# Altium integrated library Lattice Semiconductor ispMACH 4000ZE.IntLib: 56 symbols (part 1 of 3)
Pins are listed as number, name and electrical type; pins without a type are passive.

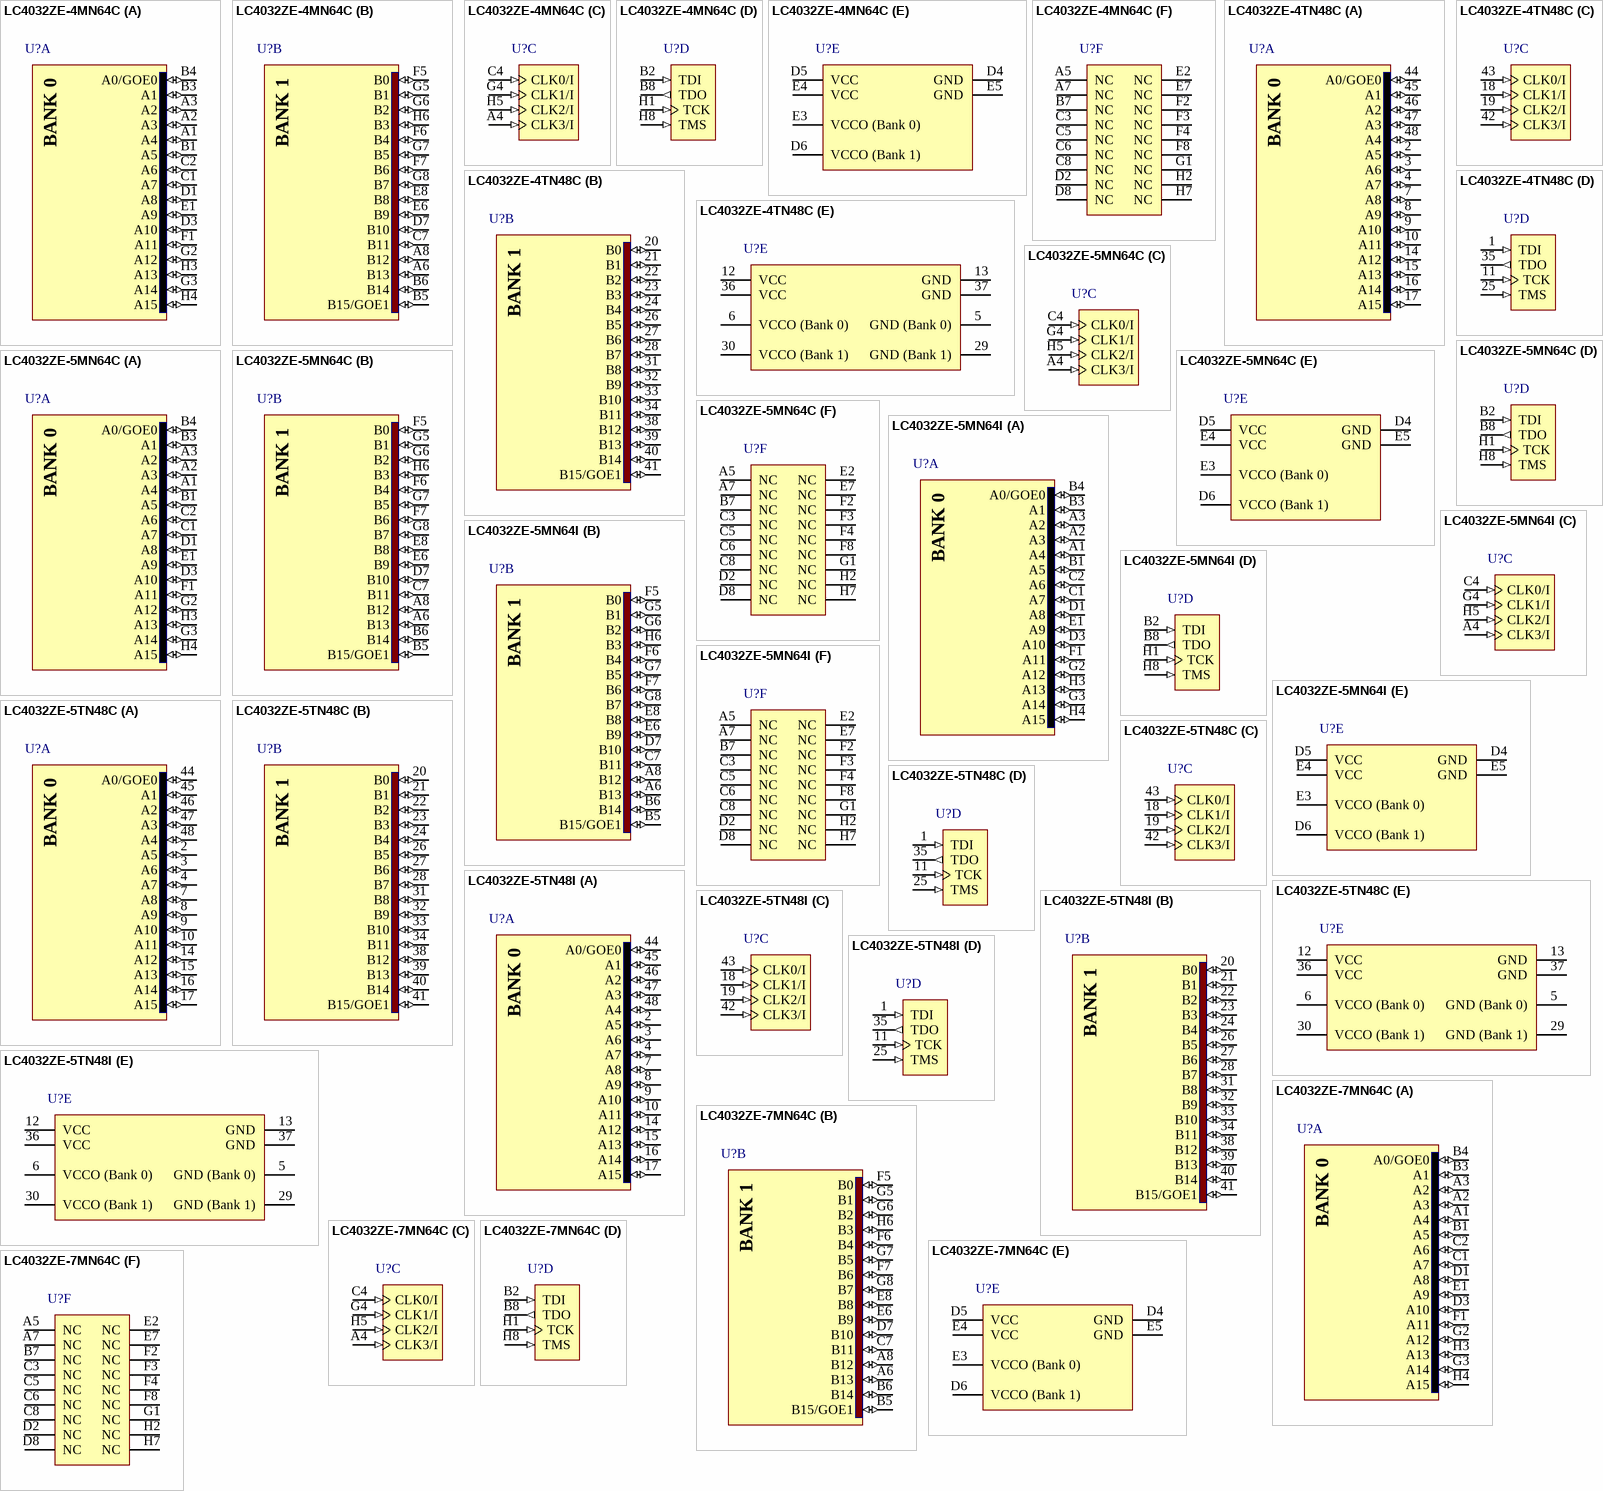
[diagram p0: symbols LC4032ZE-4MN64C to LC4032ZE-7MN64C]

## LC4032ZE-4MN64C
designator U?
ispMACH 4000ZE Ultra Low Power PLD, 1.8V, 32 User I/Os, 64-Pin csBGA, 4.4ns, Commercial Grade, Pb-Free; DatasheetVersion: ver01.4, May-2009; PackageVersion: ver02.6, Nov-2010; PackageReference: csBGA64; PackageDescription: 64-Ball Chip Scale Ball Grid Array (csBGA64); ComponentLink1Description: Manufacturer URL; ComponentLink1URL: http://www.latticesemi.com/; ComponentLink2Description: Datasheet; ComponentLink2URL: http://www.latticesemi.com/documents/DS1022.pdf; ComponentLink3Description: Package Specification; ComponentLink3URL: http://www.latticesemi.com/lit/docs/package/pkg.pdf
footprint csBGA64 (BGA, 64-Leads, Body 5x5mm, Pitch 0.5mm)
part A pins: A1 A4 (io), A2 A3 (io), A3 A2 (io), B1 A5 (io), B3 A1 (io), B4 A0/GOE0 (io), C1 A7 (io), C2 A6 (io), D1 A8 (io), D3 A10 (io), E1 A9 (io), F1 A11 (io), G2 A12 (io), G3 A14 (io), H3 A13 (io), H4 A15 (io)
part B pins: A6 B13 (io), A8 B12 (io), B5 B15/GOE1 (io), B6 B14 (io), C7 B11 (io), D7 B10 (io), E6 B9 (io), E8 B8 (io), F5 B0 (io), F6 B4 (io), F7 B6 (io), G5 B1 (io), G6 B2 (io), G7 B5 (io), G8 B7 (io), H6 B3 (io)
part C pins: A4 CLK3/I (in), C4 CLK0/I (in), G4 CLK1/I (in), H5 CLK2/I (in)
part D pins: B2 TDI (in), B8 TDO (out), H1 TCK (in), H8 TMS (in)
part E pins: D4 GND (power), D5 VCC (power), D6 VCCO (Bank 1) (power), E3 VCCO (Bank 0) (power), E4 VCC (power), E5 GND (power)
part F pins: A5 NC, A7 NC, B7 NC, C3 NC, C5 NC, C6 NC, C8 NC, D2 NC, D8 NC, E2 NC, E7 NC, F2 NC, F3 NC, F4 NC, F8 NC, G1 NC, H2 NC, H7 NC
part A text: BANK 0
part B text: BANK 1

## LC4032ZE-4TN48C
designator U?
ispMACH 4000ZE Ultra Low Power PLD, 1.8V, 32 User I/Os, 48-Pin TQFP, 4.4ns, Commercial Grade, Pb-Free; DatasheetVersion: ver01.4, May-2009; PackageVersion: ver02.6, Nov-2010; PackageReference: TQFP48(1mm); PackageDescription: 48-Pin Thin Quad Flat Pack 1.0 mm Thick (TQFP48); ComponentLink1Description: Manufacturer URL; ComponentLink1URL: http://www.latticesemi.com/; ComponentLink2Description: Datasheet; ComponentLink2URL: http://www.latticesemi.com/documents/DS1022.pdf; ComponentLink3Description: Package Specification; ComponentLink3URL: http://www.latticesemi.com/lit/docs/package/pkg.pdf
footprint TQFP48(1mm)_N (Thin QFP, 48-Leads, Body 7x7mm, Pitch 0.5mm, IPC Medium Density)
footprint TQFP48(1mm)_L (Thin QFP, 48-Leads, Body 7x7mm, Pitch 0.5mm, IPC High Density)
footprint TQFP48(1mm)_M (Thin QFP, 48-Leads, Body 7x7mm, Pitch 0.5mm, IPC Low Density)
part A pins: 2 A5 (io), 3 A6 (io), 4 A7 (io), 7 A8 (io), 8 A9 (io), 9 A10 (io), 10 A11 (io), 14 A12 (io), 15 A13 (io), 16 A14 (io), 17 A15 (io), 44 A0/GOE0 (io), 45 A1 (io), 46 A2 (io), 47 A3 (io), 48 A4 (io)
part B pins: 20 B0 (io), 21 B1 (io), 22 B2 (io), 23 B3 (io), 24 B4 (io), 26 B5 (io), 27 B6 (io), 28 B7 (io), 31 B8 (io), 32 B9 (io), 33 B10 (io), 34 B11 (io), 38 B12 (io), 39 B13 (io), 40 B14 (io), 41 B15/GOE1 (io)
part C pins: 18 CLK1/I (in), 19 CLK2/I (in), 42 CLK3/I (in), 43 CLK0/I (in)
part D pins: 1 TDI (in), 11 TCK (in), 25 TMS (in), 35 TDO (out)
part E pins: 5 GND (Bank 0) (power), 6 VCCO (Bank 0) (power), 12 VCC (power), 13 GND (power), 29 GND (Bank 1) (power), 30 VCCO (Bank 1) (power), 36 VCC (power), 37 GND (power)
part A text: BANK 0
part B text: BANK 1

## LC4032ZE-5MN64C
designator U?
ispMACH 4000ZE Ultra Low Power PLD, 1.8V, 32 User I/Os, 64-Pin csBGA, 5.8ns, Commercial Grade, Pb-Free; DatasheetVersion: ver01.4, May-2009; PackageVersion: ver02.6, Nov-2010; PackageReference: csBGA64; PackageDescription: 64-Ball Chip Scale Ball Grid Array (csBGA64); ComponentLink1Description: Manufacturer URL; ComponentLink1URL: http://www.latticesemi.com/; ComponentLink2Description: Datasheet; ComponentLink2URL: http://www.latticesemi.com/documents/DS1022.pdf; ComponentLink3Description: Package Specification; ComponentLink3URL: http://www.latticesemi.com/lit/docs/package/pkg.pdf
footprint csBGA64 (BGA, 64-Leads, Body 5x5mm, Pitch 0.5mm)
part A pins: A1 A4 (io), A2 A3 (io), A3 A2 (io), B1 A5 (io), B3 A1 (io), B4 A0/GOE0 (io), C1 A7 (io), C2 A6 (io), D1 A8 (io), D3 A10 (io), E1 A9 (io), F1 A11 (io), G2 A12 (io), G3 A14 (io), H3 A13 (io), H4 A15 (io)
part B pins: A6 B13 (io), A8 B12 (io), B5 B15/GOE1 (io), B6 B14 (io), C7 B11 (io), D7 B10 (io), E6 B9 (io), E8 B8 (io), F5 B0 (io), F6 B4 (io), F7 B6 (io), G5 B1 (io), G6 B2 (io), G7 B5 (io), G8 B7 (io), H6 B3 (io)
part C pins: A4 CLK3/I (in), C4 CLK0/I (in), G4 CLK1/I (in), H5 CLK2/I (in)
part D pins: B2 TDI (in), B8 TDO (out), H1 TCK (in), H8 TMS (in)
part E pins: D4 GND (power), D5 VCC (power), D6 VCCO (Bank 1) (power), E3 VCCO (Bank 0) (power), E4 VCC (power), E5 GND (power)
part F pins: A5 NC, A7 NC, B7 NC, C3 NC, C5 NC, C6 NC, C8 NC, D2 NC, D8 NC, E2 NC, E7 NC, F2 NC, F3 NC, F4 NC, F8 NC, G1 NC, H2 NC, H7 NC
part A text: BANK 0
part B text: BANK 1

## LC4032ZE-5MN64I
designator U?
ispMACH 4000ZE Ultra Low Power PLD, 1.8V, 32 User I/Os, 64-Pin csBGA, 5.8ns, Industrial Grade, Pb-Free; DatasheetVersion: ver01.4, May-2009; PackageVersion: ver02.6, Nov-2010; PackageReference: csBGA64; PackageDescription: 64-Ball Chip Scale Ball Grid Array (csBGA64); ComponentLink1Description: Manufacturer URL; ComponentLink1URL: http://www.latticesemi.com/; ComponentLink2Description: Datasheet; ComponentLink2URL: http://www.latticesemi.com/documents/DS1022.pdf; ComponentLink3Description: Package Specification; ComponentLink3URL: http://www.latticesemi.com/lit/docs/package/pkg.pdf
footprint csBGA64 (BGA, 64-Leads, Body 5x5mm, Pitch 0.5mm)
part A pins: A1 A4 (io), A2 A3 (io), A3 A2 (io), B1 A5 (io), B3 A1 (io), B4 A0/GOE0 (io), C1 A7 (io), C2 A6 (io), D1 A8 (io), D3 A10 (io), E1 A9 (io), F1 A11 (io), G2 A12 (io), G3 A14 (io), H3 A13 (io), H4 A15 (io)
part B pins: A6 B13 (io), A8 B12 (io), B5 B15/GOE1 (io), B6 B14 (io), C7 B11 (io), D7 B10 (io), E6 B9 (io), E8 B8 (io), F5 B0 (io), F6 B4 (io), F7 B6 (io), G5 B1 (io), G6 B2 (io), G7 B5 (io), G8 B7 (io), H6 B3 (io)
part C pins: A4 CLK3/I (in), C4 CLK0/I (in), G4 CLK1/I (in), H5 CLK2/I (in)
part D pins: B2 TDI (in), B8 TDO (out), H1 TCK (in), H8 TMS (in)
part E pins: D4 GND (power), D5 VCC (power), D6 VCCO (Bank 1) (power), E3 VCCO (Bank 0) (power), E4 VCC (power), E5 GND (power)
part F pins: A5 NC, A7 NC, B7 NC, C3 NC, C5 NC, C6 NC, C8 NC, D2 NC, D8 NC, E2 NC, E7 NC, F2 NC, F3 NC, F4 NC, F8 NC, G1 NC, H2 NC, H7 NC
part A text: BANK 0
part B text: BANK 1

## LC4032ZE-5TN48C
designator U?
ispMACH 4000ZE Ultra Low Power PLD, 1.8V, 32 User I/Os, 48-Pin TQFP, 5.8ns, Commercial Grade, Pb-Free; DatasheetVersion: ver01.4, May-2009; PackageVersion: ver02.6, Nov-2010; PackageReference: TQFP48(1mm); PackageDescription: 48-Pin Thin Quad Flat Pack 1.0 mm Thick (TQFP48); ComponentLink1Description: Manufacturer URL; ComponentLink1URL: http://www.latticesemi.com/; ComponentLink2Description: Datasheet; ComponentLink2URL: http://www.latticesemi.com/documents/DS1022.pdf; ComponentLink3Description: Package Specification; ComponentLink3URL: http://www.latticesemi.com/lit/docs/package/pkg.pdf
footprint TQFP48(1mm)_N (Thin QFP, 48-Leads, Body 7x7mm, Pitch 0.5mm, IPC Medium Density)
footprint TQFP48(1mm)_L (Thin QFP, 48-Leads, Body 7x7mm, Pitch 0.5mm, IPC High Density)
footprint TQFP48(1mm)_M (Thin QFP, 48-Leads, Body 7x7mm, Pitch 0.5mm, IPC Low Density)
part A pins: 2 A5 (io), 3 A6 (io), 4 A7 (io), 7 A8 (io), 8 A9 (io), 9 A10 (io), 10 A11 (io), 14 A12 (io), 15 A13 (io), 16 A14 (io), 17 A15 (io), 44 A0/GOE0 (io), 45 A1 (io), 46 A2 (io), 47 A3 (io), 48 A4 (io)
part B pins: 20 B0 (io), 21 B1 (io), 22 B2 (io), 23 B3 (io), 24 B4 (io), 26 B5 (io), 27 B6 (io), 28 B7 (io), 31 B8 (io), 32 B9 (io), 33 B10 (io), 34 B11 (io), 38 B12 (io), 39 B13 (io), 40 B14 (io), 41 B15/GOE1 (io)
part C pins: 18 CLK1/I (in), 19 CLK2/I (in), 42 CLK3/I (in), 43 CLK0/I (in)
part D pins: 1 TDI (in), 11 TCK (in), 25 TMS (in), 35 TDO (out)
part E pins: 5 GND (Bank 0) (power), 6 VCCO (Bank 0) (power), 12 VCC (power), 13 GND (power), 29 GND (Bank 1) (power), 30 VCCO (Bank 1) (power), 36 VCC (power), 37 GND (power)
part A text: BANK 0
part B text: BANK 1

## LC4032ZE-5TN48I
designator U?
ispMACH 4000ZE Ultra Low Power PLD, 1.8V, 32 User I/Os, 48-Pin TQFP, 5.8ns, Industrial Grade, Pb-Free; DatasheetVersion: ver01.4, May-2009; PackageVersion: ver02.6, Nov-2010; PackageReference: TQFP48(1mm); PackageDescription: 48-Pin Thin Quad Flat Pack 1.0 mm Thick (TQFP48); ComponentLink1Description: Manufacturer URL; ComponentLink1URL: http://www.latticesemi.com/; ComponentLink2Description: Datasheet; ComponentLink2URL: http://www.latticesemi.com/documents/DS1022.pdf; ComponentLink3Description: Package Specification; ComponentLink3URL: http://www.latticesemi.com/lit/docs/package/pkg.pdf
footprint TQFP48(1mm)_N (Thin QFP, 48-Leads, Body 7x7mm, Pitch 0.5mm, IPC Medium Density)
footprint TQFP48(1mm)_L (Thin QFP, 48-Leads, Body 7x7mm, Pitch 0.5mm, IPC High Density)
footprint TQFP48(1mm)_M (Thin QFP, 48-Leads, Body 7x7mm, Pitch 0.5mm, IPC Low Density)
part A pins: 2 A5 (io), 3 A6 (io), 4 A7 (io), 7 A8 (io), 8 A9 (io), 9 A10 (io), 10 A11 (io), 14 A12 (io), 15 A13 (io), 16 A14 (io), 17 A15 (io), 44 A0/GOE0 (io), 45 A1 (io), 46 A2 (io), 47 A3 (io), 48 A4 (io)
part B pins: 20 B0 (io), 21 B1 (io), 22 B2 (io), 23 B3 (io), 24 B4 (io), 26 B5 (io), 27 B6 (io), 28 B7 (io), 31 B8 (io), 32 B9 (io), 33 B10 (io), 34 B11 (io), 38 B12 (io), 39 B13 (io), 40 B14 (io), 41 B15/GOE1 (io)
part C pins: 18 CLK1/I (in), 19 CLK2/I (in), 42 CLK3/I (in), 43 CLK0/I (in)
part D pins: 1 TDI (in), 11 TCK (in), 25 TMS (in), 35 TDO (out)
part E pins: 5 GND (Bank 0) (power), 6 VCCO (Bank 0) (power), 12 VCC (power), 13 GND (power), 29 GND (Bank 1) (power), 30 VCCO (Bank 1) (power), 36 VCC (power), 37 GND (power)
part A text: BANK 0
part B text: BANK 1

## LC4032ZE-7MN64C
designator U?
ispMACH 4000ZE Ultra Low Power PLD, 1.8V, 32 User I/Os, 64-Pin csBGA, 7.5ns, Commercial Grade, Pb-Free; DatasheetVersion: ver01.4, May-2009; PackageVersion: ver02.6, Nov-2010; PackageReference: csBGA64; PackageDescription: 64-Ball Chip Scale Ball Grid Array (csBGA64); ComponentLink1Description: Manufacturer URL; ComponentLink1URL: http://www.latticesemi.com/; ComponentLink2Description: Datasheet; ComponentLink2URL: http://www.latticesemi.com/documents/DS1022.pdf; ComponentLink3Description: Package Specification; ComponentLink3URL: http://www.latticesemi.com/lit/docs/package/pkg.pdf
footprint csBGA64 (BGA, 64-Leads, Body 5x5mm, Pitch 0.5mm)
part A pins: A1 A4 (io), A2 A3 (io), A3 A2 (io), B1 A5 (io), B3 A1 (io), B4 A0/GOE0 (io), C1 A7 (io), C2 A6 (io), D1 A8 (io), D3 A10 (io), E1 A9 (io), F1 A11 (io), G2 A12 (io), G3 A14 (io), H3 A13 (io), H4 A15 (io)
part B pins: A6 B13 (io), A8 B12 (io), B5 B15/GOE1 (io), B6 B14 (io), C7 B11 (io), D7 B10 (io), E6 B9 (io), E8 B8 (io), F5 B0 (io), F6 B4 (io), F7 B6 (io), G5 B1 (io), G6 B2 (io), G7 B5 (io), G8 B7 (io), H6 B3 (io)
part C pins: A4 CLK3/I (in), C4 CLK0/I (in), G4 CLK1/I (in), H5 CLK2/I (in)
part D pins: B2 TDI (in), B8 TDO (out), H1 TCK (in), H8 TMS (in)
part E pins: D4 GND (power), D5 VCC (power), D6 VCCO (Bank 1) (power), E3 VCCO (Bank 0) (power), E4 VCC (power), E5 GND (power)
part F pins: A5 NC, A7 NC, B7 NC, C3 NC, C5 NC, C6 NC, C8 NC, D2 NC, D8 NC, E2 NC, E7 NC, F2 NC, F3 NC, F4 NC, F8 NC, G1 NC, H2 NC, H7 NC
part A text: BANK 0
part B text: BANK 1

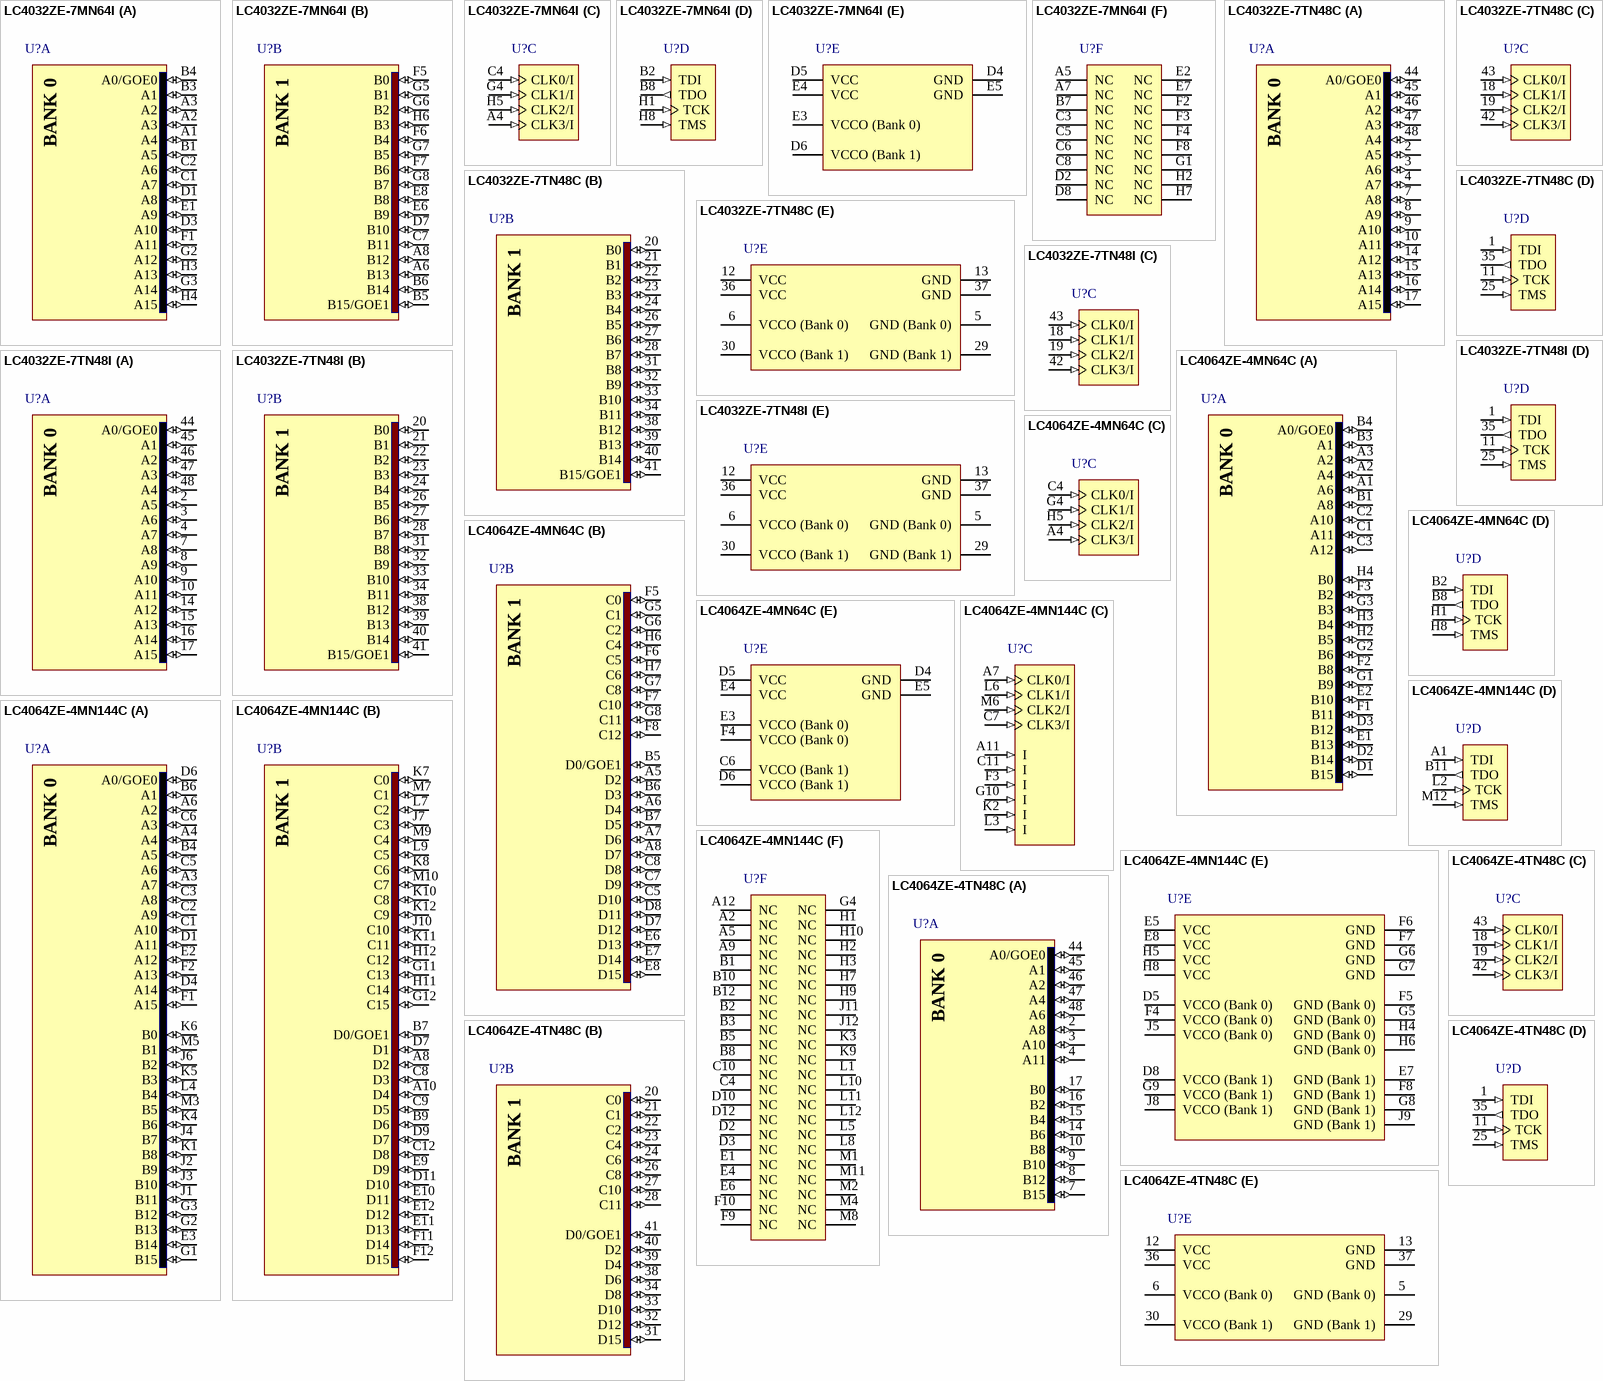
[diagram p1: symbols LC4032ZE-7MN64I to LC4064ZE-4TN48C]

## LC4032ZE-7MN64I
designator U?
ispMACH 4000ZE Ultra Low Power PLD, 1.8V, 32 User I/Os, 64-Pin csBGA, 7.5ns, Industrial Grade, Pb-Free; DatasheetVersion: ver01.4, May-2009; PackageVersion: ver02.6, Nov-2010; PackageReference: csBGA64; PackageDescription: 64-Ball Chip Scale Ball Grid Array (csBGA64); ComponentLink1Description: Manufacturer URL; ComponentLink1URL: http://www.latticesemi.com/; ComponentLink2Description: Datasheet; ComponentLink2URL: http://www.latticesemi.com/documents/DS1022.pdf; ComponentLink3Description: Package Specification; ComponentLink3URL: http://www.latticesemi.com/lit/docs/package/pkg.pdf
footprint csBGA64 (BGA, 64-Leads, Body 5x5mm, Pitch 0.5mm)
part A pins: A1 A4 (io), A2 A3 (io), A3 A2 (io), B1 A5 (io), B3 A1 (io), B4 A0/GOE0 (io), C1 A7 (io), C2 A6 (io), D1 A8 (io), D3 A10 (io), E1 A9 (io), F1 A11 (io), G2 A12 (io), G3 A14 (io), H3 A13 (io), H4 A15 (io)
part B pins: A6 B13 (io), A8 B12 (io), B5 B15/GOE1 (io), B6 B14 (io), C7 B11 (io), D7 B10 (io), E6 B9 (io), E8 B8 (io), F5 B0 (io), F6 B4 (io), F7 B6 (io), G5 B1 (io), G6 B2 (io), G7 B5 (io), G8 B7 (io), H6 B3 (io)
part C pins: A4 CLK3/I (in), C4 CLK0/I (in), G4 CLK1/I (in), H5 CLK2/I (in)
part D pins: B2 TDI (in), B8 TDO (out), H1 TCK (in), H8 TMS (in)
part E pins: D4 GND (power), D5 VCC (power), D6 VCCO (Bank 1) (power), E3 VCCO (Bank 0) (power), E4 VCC (power), E5 GND (power)
part F pins: A5 NC, A7 NC, B7 NC, C3 NC, C5 NC, C6 NC, C8 NC, D2 NC, D8 NC, E2 NC, E7 NC, F2 NC, F3 NC, F4 NC, F8 NC, G1 NC, H2 NC, H7 NC
part A text: BANK 0
part B text: BANK 1

## LC4032ZE-7TN48C
designator U?
ispMACH 4000ZE Ultra Low Power PLD, 1.8V, 32 User I/Os, 48-Pin TQFP, 7.5ns, Commercial Grade, Pb-Free; DatasheetVersion: ver01.4, May-2009; PackageVersion: ver02.6, Nov-2010; PackageReference: TQFP48(1mm); PackageDescription: 48-Pin Thin Quad Flat Pack 1.0 mm Thick (TQFP48); ComponentLink1Description: Manufacturer URL; ComponentLink1URL: http://www.latticesemi.com/; ComponentLink2Description: Datasheet; ComponentLink2URL: http://www.latticesemi.com/documents/DS1022.pdf; ComponentLink3Description: Package Specification; ComponentLink3URL: http://www.latticesemi.com/lit/docs/package/pkg.pdf
footprint TQFP48(1mm)_N (Thin QFP, 48-Leads, Body 7x7mm, Pitch 0.5mm, IPC Medium Density)
footprint TQFP48(1mm)_L (Thin QFP, 48-Leads, Body 7x7mm, Pitch 0.5mm, IPC High Density)
footprint TQFP48(1mm)_M (Thin QFP, 48-Leads, Body 7x7mm, Pitch 0.5mm, IPC Low Density)
part A pins: 2 A5 (io), 3 A6 (io), 4 A7 (io), 7 A8 (io), 8 A9 (io), 9 A10 (io), 10 A11 (io), 14 A12 (io), 15 A13 (io), 16 A14 (io), 17 A15 (io), 44 A0/GOE0 (io), 45 A1 (io), 46 A2 (io), 47 A3 (io), 48 A4 (io)
part B pins: 20 B0 (io), 21 B1 (io), 22 B2 (io), 23 B3 (io), 24 B4 (io), 26 B5 (io), 27 B6 (io), 28 B7 (io), 31 B8 (io), 32 B9 (io), 33 B10 (io), 34 B11 (io), 38 B12 (io), 39 B13 (io), 40 B14 (io), 41 B15/GOE1 (io)
part C pins: 18 CLK1/I (in), 19 CLK2/I (in), 42 CLK3/I (in), 43 CLK0/I (in)
part D pins: 1 TDI (in), 11 TCK (in), 25 TMS (in), 35 TDO (out)
part E pins: 5 GND (Bank 0) (power), 6 VCCO (Bank 0) (power), 12 VCC (power), 13 GND (power), 29 GND (Bank 1) (power), 30 VCCO (Bank 1) (power), 36 VCC (power), 37 GND (power)
part A text: BANK 0
part B text: BANK 1

## LC4032ZE-7TN48I
designator U?
ispMACH 4000ZE Ultra Low Power PLD, 1.8V, 32 User I/Os, 48-Pin TQFP, 7.5ns, Industrial Grade, Pb-Free; DatasheetVersion: ver01.4, May-2009; PackageVersion: ver02.6, Nov-2010; PackageReference: TQFP48(1mm); PackageDescription: 48-Pin Thin Quad Flat Pack 1.0 mm Thick (TQFP48); ComponentLink1Description: Manufacturer URL; ComponentLink1URL: http://www.latticesemi.com/; ComponentLink2Description: Datasheet; ComponentLink2URL: http://www.latticesemi.com/documents/DS1022.pdf; ComponentLink3Description: Package Specification; ComponentLink3URL: http://www.latticesemi.com/lit/docs/package/pkg.pdf
footprint TQFP48(1mm)_N (Thin QFP, 48-Leads, Body 7x7mm, Pitch 0.5mm, IPC Medium Density)
footprint TQFP48(1mm)_L (Thin QFP, 48-Leads, Body 7x7mm, Pitch 0.5mm, IPC High Density)
footprint TQFP48(1mm)_M (Thin QFP, 48-Leads, Body 7x7mm, Pitch 0.5mm, IPC Low Density)
part A pins: 2 A5 (io), 3 A6 (io), 4 A7 (io), 7 A8 (io), 8 A9 (io), 9 A10 (io), 10 A11 (io), 14 A12 (io), 15 A13 (io), 16 A14 (io), 17 A15 (io), 44 A0/GOE0 (io), 45 A1 (io), 46 A2 (io), 47 A3 (io), 48 A4 (io)
part B pins: 20 B0 (io), 21 B1 (io), 22 B2 (io), 23 B3 (io), 24 B4 (io), 26 B5 (io), 27 B6 (io), 28 B7 (io), 31 B8 (io), 32 B9 (io), 33 B10 (io), 34 B11 (io), 38 B12 (io), 39 B13 (io), 40 B14 (io), 41 B15/GOE1 (io)
part C pins: 18 CLK1/I (in), 19 CLK2/I (in), 42 CLK3/I (in), 43 CLK0/I (in)
part D pins: 1 TDI (in), 11 TCK (in), 25 TMS (in), 35 TDO (out)
part E pins: 5 GND (Bank 0) (power), 6 VCCO (Bank 0) (power), 12 VCC (power), 13 GND (power), 29 GND (Bank 1) (power), 30 VCCO (Bank 1) (power), 36 VCC (power), 37 GND (power)
part A text: BANK 0
part B text: BANK 1

## LC4064ZE-4MN64C
designator U?
ispMACH 4000ZE Ultra Low Power PLD, 1.8V, 48 User I/Os, 64-Pin csBGA, 4.7ns, Commercial Grade, Pb-Free; DatasheetVersion: ver01.4, May-2009; PackageVersion: ver02.6, Nov-2010; PackageReference: csBGA64; PackageDescription: 64-Ball Chip Scale Ball Grid Array (csBGA64); ComponentLink1Description: Manufacturer URL; ComponentLink1URL: http://www.latticesemi.com/; ComponentLink2Description: Datasheet; ComponentLink2URL: http://www.latticesemi.com/documents/DS1022.pdf; ComponentLink3Description: Package Specification; ComponentLink3URL: http://www.latticesemi.com/lit/docs/package/pkg.pdf
footprint csBGA64 (BGA, 64-Leads, Body 5x5mm, Pitch 0.5mm)
part A pins: A1 A6 (io), A2 A4 (io), A3 A2 (io), B1 A8 (io), B3 A1 (io), B4 A0/GOE0 (io), C1 A11 (io), C2 A10 (io), C3 A12 (io), D1 B15 (io), D2 B14 (io), D3 B12 (io), E1 B13 (io), E2 B10 (io), F1 B11 (io), F2 B8 (io), F3 B2 (io), G1 B9 (io), G2 B6 (io), G3 B3 (io), H2 B5 (io), H3 B4 (io), H4 B0 (io)
part B pins: A5 D2 (io), A6 D4 (io), A7 D6 (io), A8 D7 (io), B5 D0/GOE1 (io), B6 D3 (io), B7 D5 (io), C5 D10 (io), C7 D9 (io), C8 D8 (io), D7 D12 (io), D8 D11 (io), E6 D13 (io), E7 D14 (io), E8 D15 (io), F5 C0 (io), F6 C5 (io), F7 C10 (io), F8 C12 (io), G5 C1 (io), G6 C2 (io), G7 C8 (io), G8 C11 (io), H6 C4 (io), H7 C6 (io)
part C pins: A4 CLK3/I (in), C4 CLK0/I (in), G4 CLK1/I (in), H5 CLK2/I (in)
part D pins: B2 TDI (in), B8 TDO (out), H1 TCK (in), H8 TMS (in)
part E pins: C6 VCCO (Bank 1) (power), D4 GND (power), D5 VCC (power), D6 VCCO (Bank 1) (power), E3 VCCO (Bank 0) (power), E4 VCC (power), E5 GND (power), F4 VCCO (Bank 0) (power)
part A text: BANK 0
part B text: BANK 1

## LC4064ZE-4MN144C
designator U?
ispMACH 4000ZE Ultra Low Power PLD, 1.8V, 64 User I/Os, 144-Pin csBGA, 4.7ns, Commercial Grade, Pb-Free; DatasheetVersion: ver01.4, May-2009; PackageVersion: ver02.6, Nov-2010; PackageReference: csBGA144; PackageDescription: 144-Ball Chip Scale Ball Grid Array (csBGA144); ComponentLink1Description: Manufacturer URL; ComponentLink1URL: http://www.latticesemi.com/; ComponentLink2Description: Datasheet; ComponentLink2URL: http://www.latticesemi.com/documents/DS1022.pdf; ComponentLink3Description: Package Specification; ComponentLink3URL: http://www.latticesemi.com/lit/docs/package/pkg.pdf
footprint csBGA144 (BGA, 144-Leads, Body 7x7mm, Pitch 0.5mm)
part A pins: A3 A7 (io), A4 (io), A6 A2 (io), B4 A5 (io), B6 A1 (io), C1 A10 (io), C2 A9 (io), C3 A8 (io), C5 A6 (io), C6 A3 (io), D1 A11 (io), D4 A14 (io), D6 A0/GOE0 (io), E2 A12 (io), E3 B14 (io), F1 A15 (io), F2 A13 (io), G1 B15 (io), G2 B13 (io), G3 B12 (io), J1 B11 (io), J2 B9 (io), J3 B10 (io), J4 B7 (io), J6 B2 (io), K1 B8 (io), K4 B6 (io), K5 B3 (io), K6 B0 (io), L4 B4 (io), M3 B5 (io), M5 B1 (io)
part B pins: A8 D2 (io), A10 D4 (io), B7 D0/GOE1 (io), B9 D6 (io), C8 D3 (io), C9 D5 (io), C12 D8 (io), D7 D1 (io), D9 D7 (io), D11 D10 (io), E9 D9 (io), E10 D11 (io), E11 D13 (io), E12 D12 (io), F11 D14 (io), F12 D15 (io), G11 C13 (io), G12 C15 (io), H11 C14 (io), H12 C12 (io), J7 C3 (io), J10 C10 (io), K7 C0 (io), K8 C6 (io), K10 C8 (io), K11 C11 (io), K12 C9 (io), L7 C2 (io), L9 C5 (io), M7 C1 (io), M9 C4 (io), M10 C7 (io)
part C pins: A7 CLK0/I (in), A11 I (in), C7 CLK3/I (in), C11 I (in), F3 I (in), G10 I (in), K2 I (in), L3 I (in), L6 CLK1/I (in), M6 CLK2/I (in)
part D pins: A1 TDI (in), B11 TDO (out), L2 TCK (in), M12 TMS (in)
part E pins: D5 VCCO (Bank 0) (power), D8 VCCO (Bank 1) (power), E5 VCC (power), E7 GND (Bank 1) (power), E8 VCC (power), F4 VCCO (Bank 0) (power), F5 GND (Bank 0) (power), F6 GND (power), F7 GND (power), F8 GND (Bank 1) (power), G5 GND (Bank 0) (power), G6 GND (power), G7 GND (power), G8 GND (Bank 1) (power), G9 VCCO (Bank 1) (power), H4 GND (Bank 0) (power), H5 VCC (power), H6 GND (Bank 0) (power), H8 VCC (power), J5 VCCO (Bank 0) (power), J8 VCCO (Bank 1) (power), J9 GND (Bank 1) (power)
part F pins: A2 NC, A5 NC, A9 NC, A12 NC, B1 NC, B2 NC, B3 NC, B5 NC, B8 NC, B10 NC, B12 NC, C4 NC, C10 NC, D2 NC, D3 NC, D10 NC, D12 NC, E1 NC, E4 NC, E6 NC, F9 NC, F10 NC, G4 NC, H1 NC, H2 NC, H3 NC, H7 NC, H9 NC, H10 NC, J11 NC, J12 NC, K3 NC, K9 NC, L1 NC, L5 NC, L8 NC, L10 NC, L11 NC, L12 NC, M1 NC, M2 NC, M4 NC, M8 NC, M11 NC
part A text: BANK 0
part B text: BANK 1

## LC4064ZE-4TN48C
designator U?
ispMACH 4000ZE Ultra Low Power PLD, 1.8V, 32 User I/Os, 48-Pin TQFP, 4.7ns, Commercial Grade, Pb-Free; DatasheetVersion: ver01.4, May-2009; PackageVersion: ver02.6, Nov-2010; PackageReference: TQFP48(1mm); PackageDescription: 48-Pin Thin Quad Flat Pack 1.0 mm Thick (TQFP48); ComponentLink1Description: Manufacturer URL; ComponentLink1URL: http://www.latticesemi.com/; ComponentLink2Description: Datasheet; ComponentLink2URL: http://www.latticesemi.com/documents/DS1022.pdf; ComponentLink3Description: Package Specification; ComponentLink3URL: http://www.latticesemi.com/lit/docs/package/pkg.pdf
footprint TQFP48(1mm)_N (Thin QFP, 48-Leads, Body 7x7mm, Pitch 0.5mm, IPC Medium Density)
footprint TQFP48(1mm)_L (Thin QFP, 48-Leads, Body 7x7mm, Pitch 0.5mm, IPC High Density)
footprint TQFP48(1mm)_M (Thin QFP, 48-Leads, Body 7x7mm, Pitch 0.5mm, IPC Low Density)
part A pins: 2 A8 (io), 3 A10 (io), 4 A11 (io), 7 B15 (io), 8 B12 (io), 9 B10 (io), 10 B8 (io), 14 B6 (io), 15 B4 (io), 16 B2 (io), 17 B0 (io), 44 A0/GOE0 (io), 45 A1 (io), 46 A2 (io), 47 A4 (io), 48 A6 (io)
part B pins: 20 C0 (io), 21 C1 (io), 22 C2 (io), 23 C4 (io), 24 C6 (io), 26 C8 (io), 27 C10 (io), 28 C11 (io), 31 D15 (io), 32 D12 (io), 33 D10 (io), 34 D8 (io), 38 D6 (io), 39 D4 (io), 40 D2 (io), 41 D0/GOE1 (io)
part C pins: 18 CLK1/I (in), 19 CLK2/I (in), 42 CLK3/I (in), 43 CLK0/I (in)
part D pins: 1 TDI (in), 11 TCK (in), 25 TMS (in), 35 TDO (out)
part E pins: 5 GND (Bank 0) (power), 6 VCCO (Bank 0) (power), 12 VCC (power), 13 GND (power), 29 GND (Bank 1) (power), 30 VCCO (Bank 1) (power), 36 VCC (power), 37 GND (power)
part A text: BANK 0
part B text: BANK 1

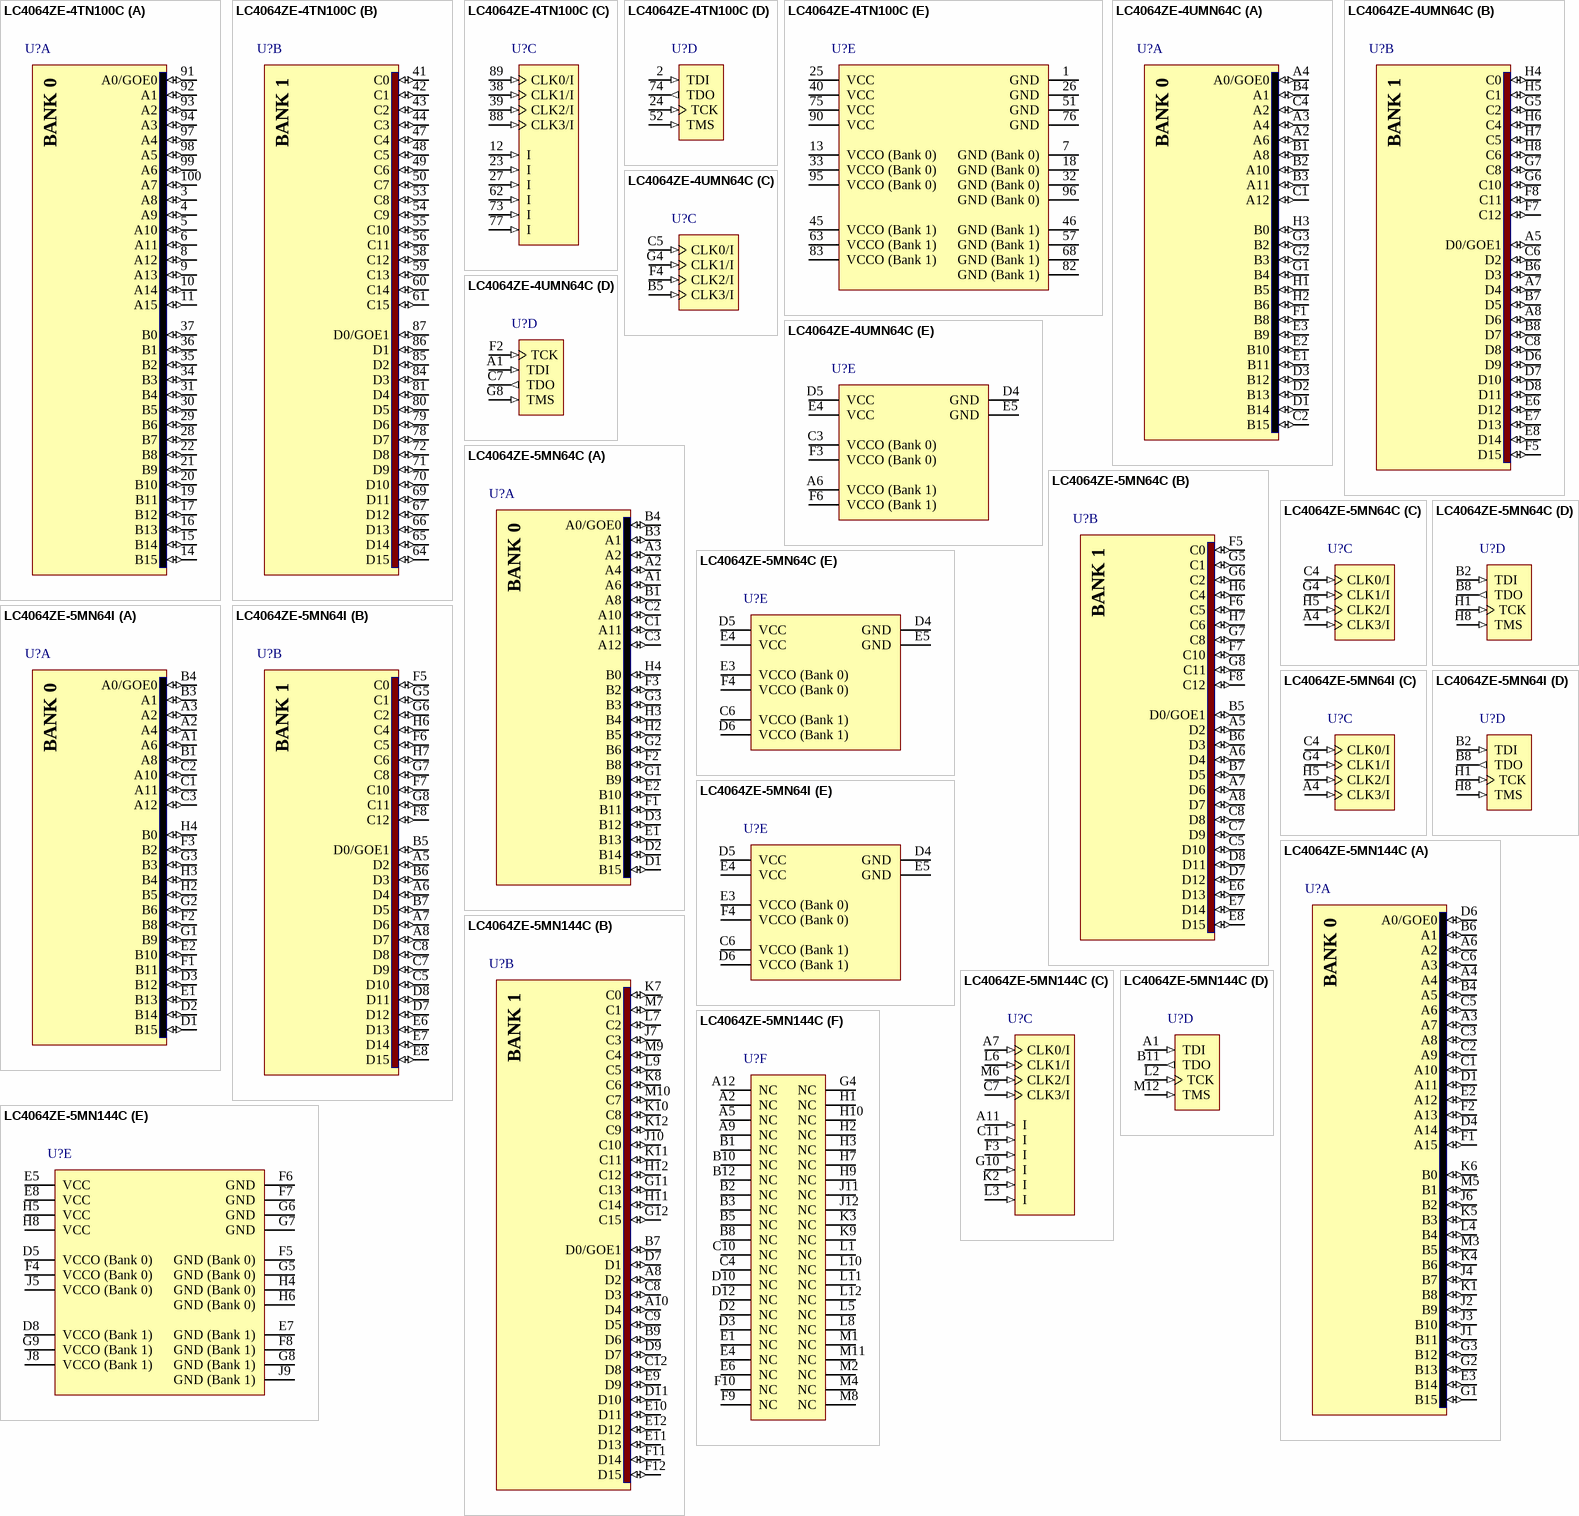
[diagram p2: symbols LC4064ZE-4TN100C to LC4064ZE-5MN144C]

## LC4064ZE-4TN100C
designator U?
ispMACH 4000ZE Ultra Low Power PLD, 1.8V, 64 User I/Os, 100-Pin TQFP, 4.7ns, Commercial Grade, Pb-Free; DatasheetVersion: ver01.4, May-2009; PackageVersion: ver02.8, Jul-2011; PackageReference: TQFP100; PackageDescription: 100-Pin Thin Quad Flat Pack (TQFP100); Code_JEDEC: MS-026-BED; ComponentLink1Description: Manufacturer URL; ComponentLink1URL: http://www.latticesemi.com/; ComponentLink2Description: Datasheet; ComponentLink2URL: http://www.latticesemi.com/documents/DS1022.pdf; ComponentLink3Description: Package Specification; ComponentLink3URL: http://www.latticesemi.com/lit/docs/package/pkg.pdf
footprint TQFP100_N (Thin QFP, 100-Leads, Body 14x14mm, Pitch 0.5mm, IPC Medium Density)
footprint TQFP100_L (Thin QFP, 100-Leads, Body 14x14mm, Pitch 0.5mm, IPC High Density)
footprint TQFP100_M (Thin QFP, 100-Leads, Body 14x14mm, Pitch 0.5mm, IPC Low Density)
part A pins: 3 A8 (io), 4 A9 (io), 5 A10 (io), 6 A11 (io), 8 A12 (io), 9 A13 (io), 10 A14 (io), 11 A15 (io), 14 B15 (io), 15 B14 (io), 16 B13 (io), 17 B12 (io), 19 B11 (io), 20 B10 (io), 21 B9 (io), 22 B8 (io), 28 B7 (io), 29 B6 (io), 30 B5 (io), 31 B4 (io), 34 B3 (io), 35 B2 (io), 36 B1 (io), 37 B0 (io), 91 A0/GOE0 (io), 92 A1 (io), 93 A2 (io), 94 A3 (io), 97 A4 (io), 98 A5 (io), 99 A6 (io), 100 A7 (io)
part B pins: 41 C0 (io), 42 C1 (io), 43 C2 (io), 44 C3 (io), 47 C4 (io), 48 C5 (io), 49 C6 (io), 50 C7 (io), 53 C8 (io), 54 C9 (io), 55 C10 (io), 56 C11 (io), 58 C12 (io), 59 C13 (io), 60 C14 (io), 61 C15 (io), 64 D15 (io), 65 D14 (io), 66 D13 (io), 67 D12 (io), 69 D11 (io), 70 D10 (io), 71 D9 (io), 72 D8 (io), 78 D7 (io), 79 D6 (io), 80 D5 (io), 81 D4 (io), 84 D3 (io), 85 D2 (io), 86 D1 (io), 87 D0/GOE1 (io)
part C pins: 12 I (in), 23 I (in), 27 I (in), 38 CLK1/I (in), 39 CLK2/I (in), 62 I (in), 73 I (in), 77 I (in), 88 CLK3/I (in), 89 CLK0/I (in)
part D pins: 2 TDI (in), 24 TCK (in), 52 TMS (in), 74 TDO (out)
part E pins: 1 GND (power), 7 GND (Bank 0) (power), 13 VCCO (Bank 0) (power), 18 GND (Bank 0) (power), 25 VCC (power), 26 GND (power), 32 GND (Bank 0) (power), 33 VCCO (Bank 0) (power), 40 VCC (power), 45 VCCO (Bank 1) (power), 46 GND (Bank 1) (power), 51 GND (power), 57 GND (Bank 1) (power), 63 VCCO (Bank 1) (power), 68 GND (Bank 1) (power), 75 VCC (power), 76 GND (power), 82 GND (Bank 1) (power), 83 VCCO (Bank 1) (power), 90 VCC (power), 95 VCCO (Bank 0) (power), 96 GND (Bank 0) (power)
part A text: BANK 0
part B text: BANK 1

## LC4064ZE-4UMN64C
designator U?
ispMACH 4000ZE Ultra Low Power PLD, 1.8V, 48 User I/Os, 64-Pin ucBGA, 4.7ns, Commercial Grade, Pb-Free; DatasheetVersion: ver01.4, May-2009; PackageVersion: ver02.8, Jul-2011; PackageReference: ucBGA64; PackageDescription: 64-Ball ucBGA Package, 4 x 4 mm Body, 0.4 mm Pitch; ComponentLink1Description: Manufacturer URL; ComponentLink1URL: http://www.latticesemi.com/; ComponentLink2Description: Datasheet; ComponentLink2URL: http://www.latticesemi.com/documents/DS1022.pdf; ComponentLink3Description: Package Specification; ComponentLink3URL: http://www.latticesemi.com/lit/docs/package/pkg.pdf
footprint ucBGA64 (BGA, 64-Leads, Body 4x4mm, Pitch 0.4mm, Nominal Pad Dia. 0.2mm, Lattice Recommended)
part A pins: A2 A6 (io), A3 A4 (io), A4 A0/GOE0 (io), B1 A8 (io), B2 A10 (io), B3 A11 (io), B4 A1 (io), C1 A12 (io), C2 B15 (io), C4 A2 (io), D1 B14 (io), D2 B13 (io), D3 B12 (io), E1 B11 (io), E2 B10 (io), E3 B9 (io), F1 B8 (io), G1 B4 (io), G2 B3 (io), G3 B2 (io), H1 B5 (io), H2 B6 (io), H3 B0 (io)
part B pins: A5 D0/GOE1 (io), A7 D4 (io), A8 D6 (io), B6 D3 (io), B7 D5 (io), B8 D7 (io), C6 D2 (io), C8 D8 (io), D6 D9 (io), D7 D10 (io), D8 D11 (io), E6 D12 (io), E7 D13 (io), E8 D14 (io), F5 D15 (io), F7 C12 (io), F8 C11 (io), G5 C2 (io), G6 C10 (io), G7 C8 (io), H4 C0 (io), H5 C1 (io), H6 C4 (io), H7 C5 (io), H8 C6 (io)
part C pins: B5 CLK3/I (in), C5 CLK0/I (in), F4 CLK2/I (in), G4 CLK1/I (in)
part D pins: A1 TDI (in), C7 TDO (out), F2 TCK (in), G8 TMS (in)
part E pins: A6 VCCO (Bank 1) (power), C3 VCCO (Bank 0) (power), D4 GND (power), D5 VCC (power), E4 VCC (power), E5 GND (power), F3 VCCO (Bank 0) (power), F6 VCCO (Bank 1) (power)
part A text: BANK 0
part B text: BANK 1

## LC4064ZE-5MN64C
designator U?
ispMACH 4000ZE Ultra Low Power PLD, 1.8V, 48 User I/Os, 64-Pin csBGA, 5.8ns, Commercial Grade, Pb-Free; DatasheetVersion: ver01.4, May-2009; PackageVersion: ver02.6, Nov-2010; PackageReference: csBGA64; PackageDescription: 64-Ball Chip Scale Ball Grid Array (csBGA64); ComponentLink1Description: Manufacturer URL; ComponentLink1URL: http://www.latticesemi.com/; ComponentLink2Description: Datasheet; ComponentLink2URL: http://www.latticesemi.com/documents/DS1022.pdf; ComponentLink3Description: Package Specification; ComponentLink3URL: http://www.latticesemi.com/lit/docs/package/pkg.pdf
footprint csBGA64 (BGA, 64-Leads, Body 5x5mm, Pitch 0.5mm)
part A pins: A1 A6 (io), A2 A4 (io), A3 A2 (io), B1 A8 (io), B3 A1 (io), B4 A0/GOE0 (io), C1 A11 (io), C2 A10 (io), C3 A12 (io), D1 B15 (io), D2 B14 (io), D3 B12 (io), E1 B13 (io), E2 B10 (io), F1 B11 (io), F2 B8 (io), F3 B2 (io), G1 B9 (io), G2 B6 (io), G3 B3 (io), H2 B5 (io), H3 B4 (io), H4 B0 (io)
part B pins: A5 D2 (io), A6 D4 (io), A7 D6 (io), A8 D7 (io), B5 D0/GOE1 (io), B6 D3 (io), B7 D5 (io), C5 D10 (io), C7 D9 (io), C8 D8 (io), D7 D12 (io), D8 D11 (io), E6 D13 (io), E7 D14 (io), E8 D15 (io), F5 C0 (io), F6 C5 (io), F7 C10 (io), F8 C12 (io), G5 C1 (io), G6 C2 (io), G7 C8 (io), G8 C11 (io), H6 C4 (io), H7 C6 (io)
part C pins: A4 CLK3/I (in), C4 CLK0/I (in), G4 CLK1/I (in), H5 CLK2/I (in)
part D pins: B2 TDI (in), B8 TDO (out), H1 TCK (in), H8 TMS (in)
part E pins: C6 VCCO (Bank 1) (power), D4 GND (power), D5 VCC (power), D6 VCCO (Bank 1) (power), E3 VCCO (Bank 0) (power), E4 VCC (power), E5 GND (power), F4 VCCO (Bank 0) (power)
part A text: BANK 0
part B text: BANK 1

## LC4064ZE-5MN64I
designator U?
ispMACH 4000ZE Ultra Low Power PLD, 1.8V, 48 User I/Os, 64-Pin csBGA, 5.8ns, Industrial Grade, Pb-Free; DatasheetVersion: ver01.4, May-2009; PackageVersion: ver02.6, Nov-2010; PackageReference: csBGA64; PackageDescription: 64-Ball Chip Scale Ball Grid Array (csBGA64); ComponentLink1Description: Manufacturer URL; ComponentLink1URL: http://www.latticesemi.com/; ComponentLink2Description: Datasheet; ComponentLink2URL: http://www.latticesemi.com/documents/DS1022.pdf; ComponentLink3Description: Package Specification; ComponentLink3URL: http://www.latticesemi.com/lit/docs/package/pkg.pdf
footprint csBGA64 (BGA, 64-Leads, Body 5x5mm, Pitch 0.5mm)
part A pins: A1 A6 (io), A2 A4 (io), A3 A2 (io), B1 A8 (io), B3 A1 (io), B4 A0/GOE0 (io), C1 A11 (io), C2 A10 (io), C3 A12 (io), D1 B15 (io), D2 B14 (io), D3 B12 (io), E1 B13 (io), E2 B10 (io), F1 B11 (io), F2 B8 (io), F3 B2 (io), G1 B9 (io), G2 B6 (io), G3 B3 (io), H2 B5 (io), H3 B4 (io), H4 B0 (io)
part B pins: A5 D2 (io), A6 D4 (io), A7 D6 (io), A8 D7 (io), B5 D0/GOE1 (io), B6 D3 (io), B7 D5 (io), C5 D10 (io), C7 D9 (io), C8 D8 (io), D7 D12 (io), D8 D11 (io), E6 D13 (io), E7 D14 (io), E8 D15 (io), F5 C0 (io), F6 C5 (io), F7 C10 (io), F8 C12 (io), G5 C1 (io), G6 C2 (io), G7 C8 (io), G8 C11 (io), H6 C4 (io), H7 C6 (io)
part C pins: A4 CLK3/I (in), C4 CLK0/I (in), G4 CLK1/I (in), H5 CLK2/I (in)
part D pins: B2 TDI (in), B8 TDO (out), H1 TCK (in), H8 TMS (in)
part E pins: C6 VCCO (Bank 1) (power), D4 GND (power), D5 VCC (power), D6 VCCO (Bank 1) (power), E3 VCCO (Bank 0) (power), E4 VCC (power), E5 GND (power), F4 VCCO (Bank 0) (power)
part A text: BANK 0
part B text: BANK 1

## LC4064ZE-5MN144C
designator U?
ispMACH 4000ZE Ultra Low Power PLD, 1.8V, 64 User I/Os, 144-Pin csBGA, 5.8ns, Commercial Grade, Pb-Free; DatasheetVersion: ver01.4, May-2009; PackageVersion: ver02.6, Nov-2010; PackageReference: csBGA144; PackageDescription: 144-Ball Chip Scale Ball Grid Array (csBGA144); ComponentLink1Description: Manufacturer URL; ComponentLink1URL: http://www.latticesemi.com/; ComponentLink2Description: Datasheet; ComponentLink2URL: http://www.latticesemi.com/documents/DS1022.pdf; ComponentLink3Description: Package Specification; ComponentLink3URL: http://www.latticesemi.com/lit/docs/package/pkg.pdf
footprint csBGA144 (BGA, 144-Leads, Body 7x7mm, Pitch 0.5mm)
part A pins: A3 A7 (io), A4 (io), A6 A2 (io), B4 A5 (io), B6 A1 (io), C1 A10 (io), C2 A9 (io), C3 A8 (io), C5 A6 (io), C6 A3 (io), D1 A11 (io), D4 A14 (io), D6 A0/GOE0 (io), E2 A12 (io), E3 B14 (io), F1 A15 (io), F2 A13 (io), G1 B15 (io), G2 B13 (io), G3 B12 (io), J1 B11 (io), J2 B9 (io), J3 B10 (io), J4 B7 (io), J6 B2 (io), K1 B8 (io), K4 B6 (io), K5 B3 (io), K6 B0 (io), L4 B4 (io), M3 B5 (io), M5 B1 (io)
part B pins: A8 D2 (io), A10 D4 (io), B7 D0/GOE1 (io), B9 D6 (io), C8 D3 (io), C9 D5 (io), C12 D8 (io), D7 D1 (io), D9 D7 (io), D11 D10 (io), E9 D9 (io), E10 D11 (io), E11 D13 (io), E12 D12 (io), F11 D14 (io), F12 D15 (io), G11 C13 (io), G12 C15 (io), H11 C14 (io), H12 C12 (io), J7 C3 (io), J10 C10 (io), K7 C0 (io), K8 C6 (io), K10 C8 (io), K11 C11 (io), K12 C9 (io), L7 C2 (io), L9 C5 (io), M7 C1 (io), M9 C4 (io), M10 C7 (io)
part C pins: A7 CLK0/I (in), A11 I (in), C7 CLK3/I (in), C11 I (in), F3 I (in), G10 I (in), K2 I (in), L3 I (in), L6 CLK1/I (in), M6 CLK2/I (in)
part D pins: A1 TDI (in), B11 TDO (out), L2 TCK (in), M12 TMS (in)
part E pins: D5 VCCO (Bank 0) (power), D8 VCCO (Bank 1) (power), E5 VCC (power), E7 GND (Bank 1) (power), E8 VCC (power), F4 VCCO (Bank 0) (power), F5 GND (Bank 0) (power), F6 GND (power), F7 GND (power), F8 GND (Bank 1) (power), G5 GND (Bank 0) (power), G6 GND (power), G7 GND (power), G8 GND (Bank 1) (power), G9 VCCO (Bank 1) (power), H4 GND (Bank 0) (power), H5 VCC (power), H6 GND (Bank 0) (power), H8 VCC (power), J5 VCCO (Bank 0) (power), J8 VCCO (Bank 1) (power), J9 GND (Bank 1) (power)
part F pins: A2 NC, A5 NC, A9 NC, A12 NC, B1 NC, B2 NC, B3 NC, B5 NC, B8 NC, B10 NC, B12 NC, C4 NC, C10 NC, D2 NC, D3 NC, D10 NC, D12 NC, E1 NC, E4 NC, E6 NC, F9 NC, F10 NC, G4 NC, H1 NC, H2 NC, H3 NC, H7 NC, H9 NC, H10 NC, J11 NC, J12 NC, K3 NC, K9 NC, L1 NC, L5 NC, L8 NC, L10 NC, L11 NC, L12 NC, M1 NC, M2 NC, M4 NC, M8 NC, M11 NC
part A text: BANK 0
part B text: BANK 1

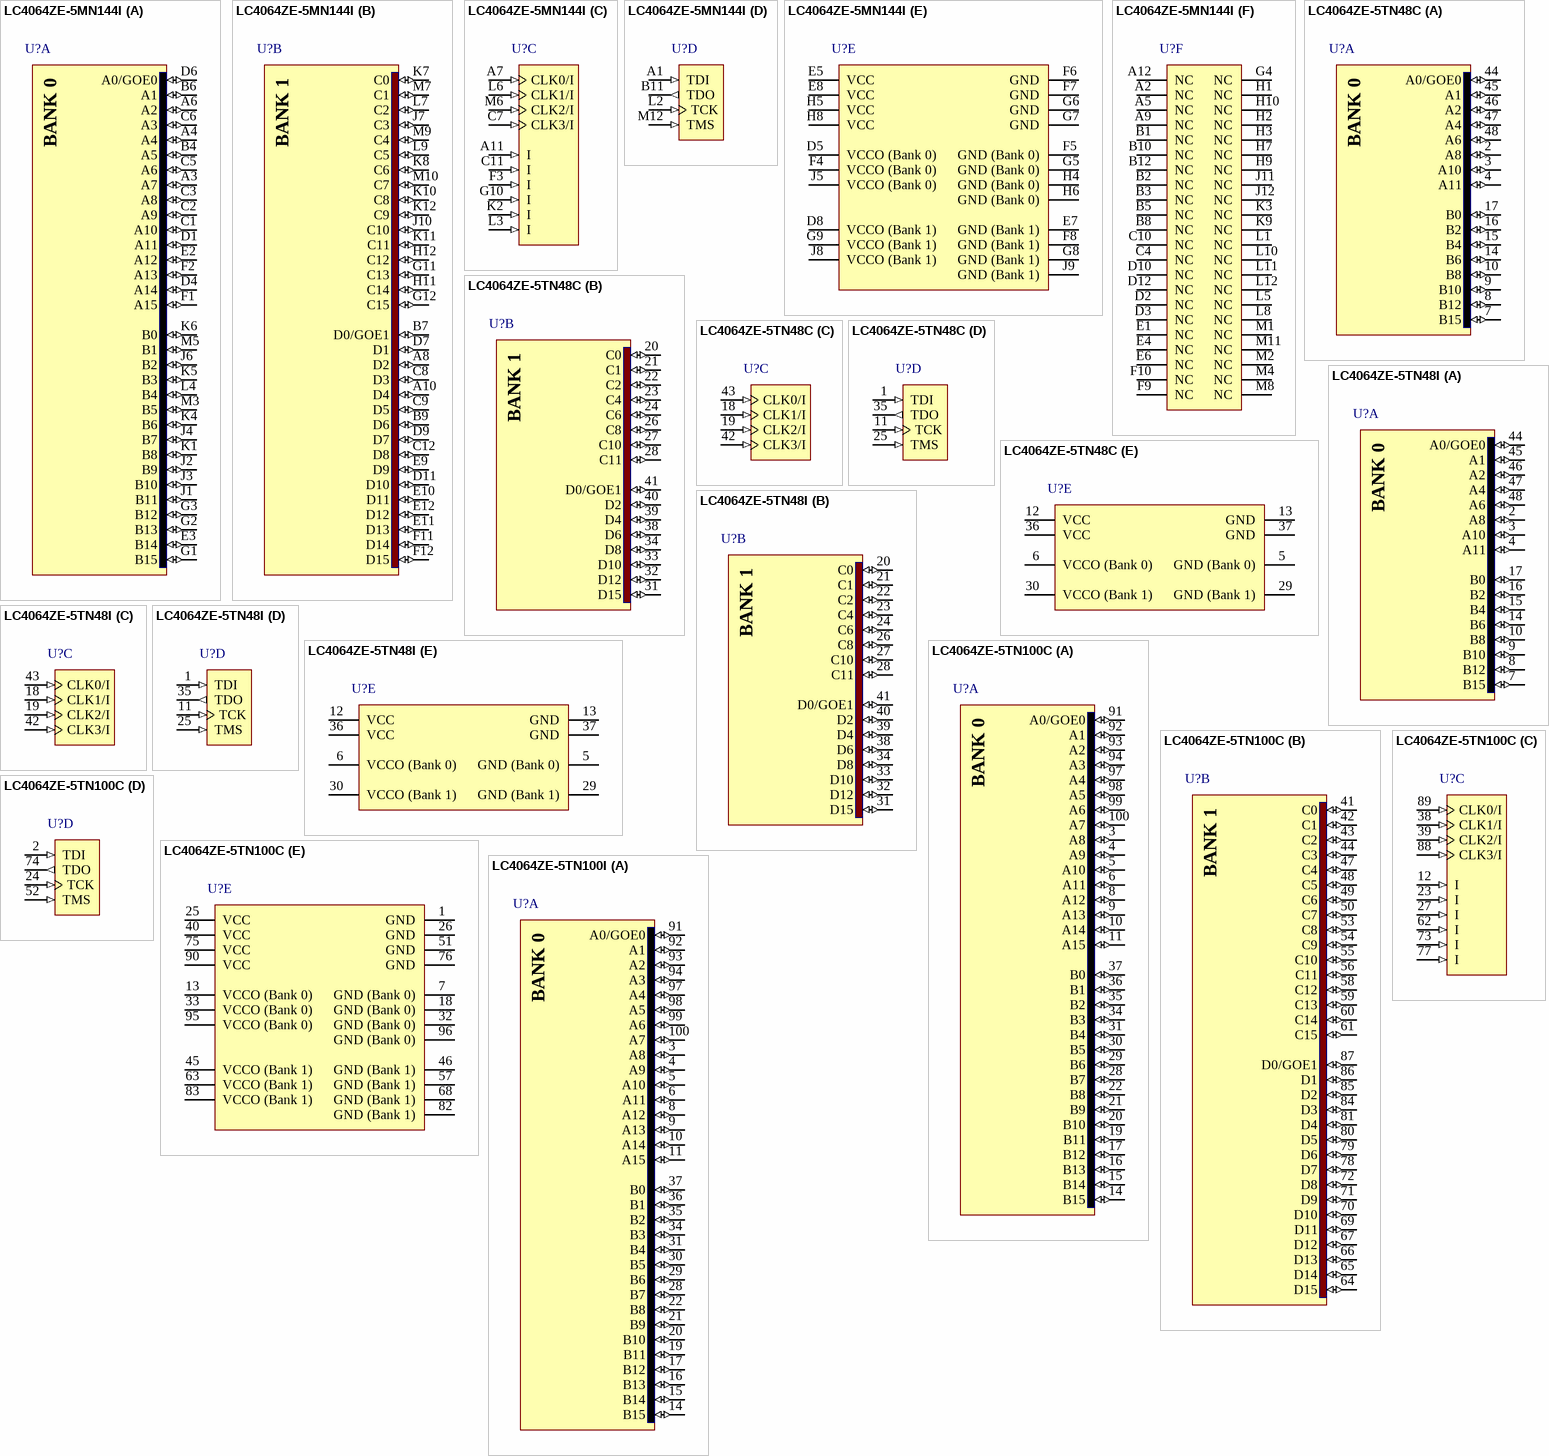
[diagram p3: symbols LC4064ZE-5MN144I to LC4064ZE-5TN100I]

## LC4064ZE-5MN144I
designator U?
ispMACH 4000ZE Ultra Low Power PLD, 1.8V, 64 User I/Os, 144-Pin csBGA, 5.8ns, Industrial Grade, Pb-Free; DatasheetVersion: ver01.4, May-2009; PackageVersion: ver02.6, Nov-2010; PackageReference: csBGA144; PackageDescription: 144-Ball Chip Scale Ball Grid Array (csBGA144); ComponentLink1Description: Manufacturer URL; ComponentLink1URL: http://www.latticesemi.com/; ComponentLink2Description: Datasheet; ComponentLink2URL: http://www.latticesemi.com/documents/DS1022.pdf; ComponentLink3Description: Package Specification; ComponentLink3URL: http://www.latticesemi.com/lit/docs/package/pkg.pdf
footprint csBGA144 (BGA, 144-Leads, Body 7x7mm, Pitch 0.5mm)
part A pins: A3 A7 (io), A4 (io), A6 A2 (io), B4 A5 (io), B6 A1 (io), C1 A10 (io), C2 A9 (io), C3 A8 (io), C5 A6 (io), C6 A3 (io), D1 A11 (io), D4 A14 (io), D6 A0/GOE0 (io), E2 A12 (io), E3 B14 (io), F1 A15 (io), F2 A13 (io), G1 B15 (io), G2 B13 (io), G3 B12 (io), J1 B11 (io), J2 B9 (io), J3 B10 (io), J4 B7 (io), J6 B2 (io), K1 B8 (io), K4 B6 (io), K5 B3 (io), K6 B0 (io), L4 B4 (io), M3 B5 (io), M5 B1 (io)
part B pins: A8 D2 (io), A10 D4 (io), B7 D0/GOE1 (io), B9 D6 (io), C8 D3 (io), C9 D5 (io), C12 D8 (io), D7 D1 (io), D9 D7 (io), D11 D10 (io), E9 D9 (io), E10 D11 (io), E11 D13 (io), E12 D12 (io), F11 D14 (io), F12 D15 (io), G11 C13 (io), G12 C15 (io), H11 C14 (io), H12 C12 (io), J7 C3 (io), J10 C10 (io), K7 C0 (io), K8 C6 (io), K10 C8 (io), K11 C11 (io), K12 C9 (io), L7 C2 (io), L9 C5 (io), M7 C1 (io), M9 C4 (io), M10 C7 (io)
part C pins: A7 CLK0/I (in), A11 I (in), C7 CLK3/I (in), C11 I (in), F3 I (in), G10 I (in), K2 I (in), L3 I (in), L6 CLK1/I (in), M6 CLK2/I (in)
part D pins: A1 TDI (in), B11 TDO (out), L2 TCK (in), M12 TMS (in)
part E pins: D5 VCCO (Bank 0) (power), D8 VCCO (Bank 1) (power), E5 VCC (power), E7 GND (Bank 1) (power), E8 VCC (power), F4 VCCO (Bank 0) (power), F5 GND (Bank 0) (power), F6 GND (power), F7 GND (power), F8 GND (Bank 1) (power), G5 GND (Bank 0) (power), G6 GND (power), G7 GND (power), G8 GND (Bank 1) (power), G9 VCCO (Bank 1) (power), H4 GND (Bank 0) (power), H5 VCC (power), H6 GND (Bank 0) (power), H8 VCC (power), J5 VCCO (Bank 0) (power), J8 VCCO (Bank 1) (power), J9 GND (Bank 1) (power)
part F pins: A2 NC, A5 NC, A9 NC, A12 NC, B1 NC, B2 NC, B3 NC, B5 NC, B8 NC, B10 NC, B12 NC, C4 NC, C10 NC, D2 NC, D3 NC, D10 NC, D12 NC, E1 NC, E4 NC, E6 NC, F9 NC, F10 NC, G4 NC, H1 NC, H2 NC, H3 NC, H7 NC, H9 NC, H10 NC, J11 NC, J12 NC, K3 NC, K9 NC, L1 NC, L5 NC, L8 NC, L10 NC, L11 NC, L12 NC, M1 NC, M2 NC, M4 NC, M8 NC, M11 NC
part A text: BANK 0
part B text: BANK 1

## LC4064ZE-5TN48C
designator U?
ispMACH 4000ZE Ultra Low Power PLD, 1.8V, 32 User I/Os, 48-Pin TQFP, 5.8ns, Commercial Grade, Pb-Free; DatasheetVersion: ver01.4, May-2009; PackageVersion: ver02.6, Nov-2010; PackageReference: TQFP48(1mm); PackageDescription: 48-Pin Thin Quad Flat Pack 1.0 mm Thick (TQFP48); ComponentLink1Description: Manufacturer URL; ComponentLink1URL: http://www.latticesemi.com/; ComponentLink2Description: Datasheet; ComponentLink2URL: http://www.latticesemi.com/documents/DS1022.pdf; ComponentLink3Description: Package Specification; ComponentLink3URL: http://www.latticesemi.com/lit/docs/package/pkg.pdf
footprint TQFP48(1mm)_N (Thin QFP, 48-Leads, Body 7x7mm, Pitch 0.5mm, IPC Medium Density)
footprint TQFP48(1mm)_L (Thin QFP, 48-Leads, Body 7x7mm, Pitch 0.5mm, IPC High Density)
footprint TQFP48(1mm)_M (Thin QFP, 48-Leads, Body 7x7mm, Pitch 0.5mm, IPC Low Density)
part A pins: 2 A8 (io), 3 A10 (io), 4 A11 (io), 7 B15 (io), 8 B12 (io), 9 B10 (io), 10 B8 (io), 14 B6 (io), 15 B4 (io), 16 B2 (io), 17 B0 (io), 44 A0/GOE0 (io), 45 A1 (io), 46 A2 (io), 47 A4 (io), 48 A6 (io)
part B pins: 20 C0 (io), 21 C1 (io), 22 C2 (io), 23 C4 (io), 24 C6 (io), 26 C8 (io), 27 C10 (io), 28 C11 (io), 31 D15 (io), 32 D12 (io), 33 D10 (io), 34 D8 (io), 38 D6 (io), 39 D4 (io), 40 D2 (io), 41 D0/GOE1 (io)
part C pins: 18 CLK1/I (in), 19 CLK2/I (in), 42 CLK3/I (in), 43 CLK0/I (in)
part D pins: 1 TDI (in), 11 TCK (in), 25 TMS (in), 35 TDO (out)
part E pins: 5 GND (Bank 0) (power), 6 VCCO (Bank 0) (power), 12 VCC (power), 13 GND (power), 29 GND (Bank 1) (power), 30 VCCO (Bank 1) (power), 36 VCC (power), 37 GND (power)
part A text: BANK 0
part B text: BANK 1

## LC4064ZE-5TN48I
designator U?
ispMACH 4000ZE Ultra Low Power PLD, 1.8V, 32 User I/Os, 48-Pin TQFP, 5.8ns, Industrial Grade, Pb-Free; DatasheetVersion: ver01.4, May-2009; PackageVersion: ver02.6, Nov-2010; PackageReference: TQFP48(1mm); PackageDescription: 48-Pin Thin Quad Flat Pack 1.0 mm Thick (TQFP48); ComponentLink1Description: Manufacturer URL; ComponentLink1URL: http://www.latticesemi.com/; ComponentLink2Description: Datasheet; ComponentLink2URL: http://www.latticesemi.com/documents/DS1022.pdf; ComponentLink3Description: Package Specification; ComponentLink3URL: http://www.latticesemi.com/lit/docs/package/pkg.pdf
footprint TQFP48(1mm)_N (Thin QFP, 48-Leads, Body 7x7mm, Pitch 0.5mm, IPC Medium Density)
footprint TQFP48(1mm)_L (Thin QFP, 48-Leads, Body 7x7mm, Pitch 0.5mm, IPC High Density)
footprint TQFP48(1mm)_M (Thin QFP, 48-Leads, Body 7x7mm, Pitch 0.5mm, IPC Low Density)
part A pins: 2 A8 (io), 3 A10 (io), 4 A11 (io), 7 B15 (io), 8 B12 (io), 9 B10 (io), 10 B8 (io), 14 B6 (io), 15 B4 (io), 16 B2 (io), 17 B0 (io), 44 A0/GOE0 (io), 45 A1 (io), 46 A2 (io), 47 A4 (io), 48 A6 (io)
part B pins: 20 C0 (io), 21 C1 (io), 22 C2 (io), 23 C4 (io), 24 C6 (io), 26 C8 (io), 27 C10 (io), 28 C11 (io), 31 D15 (io), 32 D12 (io), 33 D10 (io), 34 D8 (io), 38 D6 (io), 39 D4 (io), 40 D2 (io), 41 D0/GOE1 (io)
part C pins: 18 CLK1/I (in), 19 CLK2/I (in), 42 CLK3/I (in), 43 CLK0/I (in)
part D pins: 1 TDI (in), 11 TCK (in), 25 TMS (in), 35 TDO (out)
part E pins: 5 GND (Bank 0) (power), 6 VCCO (Bank 0) (power), 12 VCC (power), 13 GND (power), 29 GND (Bank 1) (power), 30 VCCO (Bank 1) (power), 36 VCC (power), 37 GND (power)
part A text: BANK 0
part B text: BANK 1

## LC4064ZE-5TN100C
designator U?
ispMACH 4000ZE Ultra Low Power PLD, 1.8V, 64 User I/Os, 100-Pin TQFP, 5.8ns, Commercial Grade, Pb-Free; DatasheetVersion: ver01.4, May-2009; PackageVersion: ver02.8, Jul-2011; PackageReference: TQFP100; PackageDescription: 100-Pin Thin Quad Flat Pack (TQFP100); Code_JEDEC: MS-026-BED; ComponentLink1Description: Manufacturer URL; ComponentLink1URL: http://www.latticesemi.com/; ComponentLink2Description: Datasheet; ComponentLink2URL: http://www.latticesemi.com/documents/DS1022.pdf; ComponentLink3Description: Package Specification; ComponentLink3URL: http://www.latticesemi.com/lit/docs/package/pkg.pdf
footprint TQFP100_N (Thin QFP, 100-Leads, Body 14x14mm, Pitch 0.5mm, IPC Medium Density)
footprint TQFP100_L (Thin QFP, 100-Leads, Body 14x14mm, Pitch 0.5mm, IPC High Density)
footprint TQFP100_M (Thin QFP, 100-Leads, Body 14x14mm, Pitch 0.5mm, IPC Low Density)
part A pins: 3 A8 (io), 4 A9 (io), 5 A10 (io), 6 A11 (io), 8 A12 (io), 9 A13 (io), 10 A14 (io), 11 A15 (io), 14 B15 (io), 15 B14 (io), 16 B13 (io), 17 B12 (io), 19 B11 (io), 20 B10 (io), 21 B9 (io), 22 B8 (io), 28 B7 (io), 29 B6 (io), 30 B5 (io), 31 B4 (io), 34 B3 (io), 35 B2 (io), 36 B1 (io), 37 B0 (io), 91 A0/GOE0 (io), 92 A1 (io), 93 A2 (io), 94 A3 (io), 97 A4 (io), 98 A5 (io), 99 A6 (io), 100 A7 (io)
part B pins: 41 C0 (io), 42 C1 (io), 43 C2 (io), 44 C3 (io), 47 C4 (io), 48 C5 (io), 49 C6 (io), 50 C7 (io), 53 C8 (io), 54 C9 (io), 55 C10 (io), 56 C11 (io), 58 C12 (io), 59 C13 (io), 60 C14 (io), 61 C15 (io), 64 D15 (io), 65 D14 (io), 66 D13 (io), 67 D12 (io), 69 D11 (io), 70 D10 (io), 71 D9 (io), 72 D8 (io), 78 D7 (io), 79 D6 (io), 80 D5 (io), 81 D4 (io), 84 D3 (io), 85 D2 (io), 86 D1 (io), 87 D0/GOE1 (io)
part C pins: 12 I (in), 23 I (in), 27 I (in), 38 CLK1/I (in), 39 CLK2/I (in), 62 I (in), 73 I (in), 77 I (in), 88 CLK3/I (in), 89 CLK0/I (in)
part D pins: 2 TDI (in), 24 TCK (in), 52 TMS (in), 74 TDO (out)
part E pins: 1 GND (power), 7 GND (Bank 0) (power), 13 VCCO (Bank 0) (power), 18 GND (Bank 0) (power), 25 VCC (power), 26 GND (power), 32 GND (Bank 0) (power), 33 VCCO (Bank 0) (power), 40 VCC (power), 45 VCCO (Bank 1) (power), 46 GND (Bank 1) (power), 51 GND (power), 57 GND (Bank 1) (power), 63 VCCO (Bank 1) (power), 68 GND (Bank 1) (power), 75 VCC (power), 76 GND (power), 82 GND (Bank 1) (power), 83 VCCO (Bank 1) (power), 90 VCC (power), 95 VCCO (Bank 0) (power), 96 GND (Bank 0) (power)
part A text: BANK 0
part B text: BANK 1

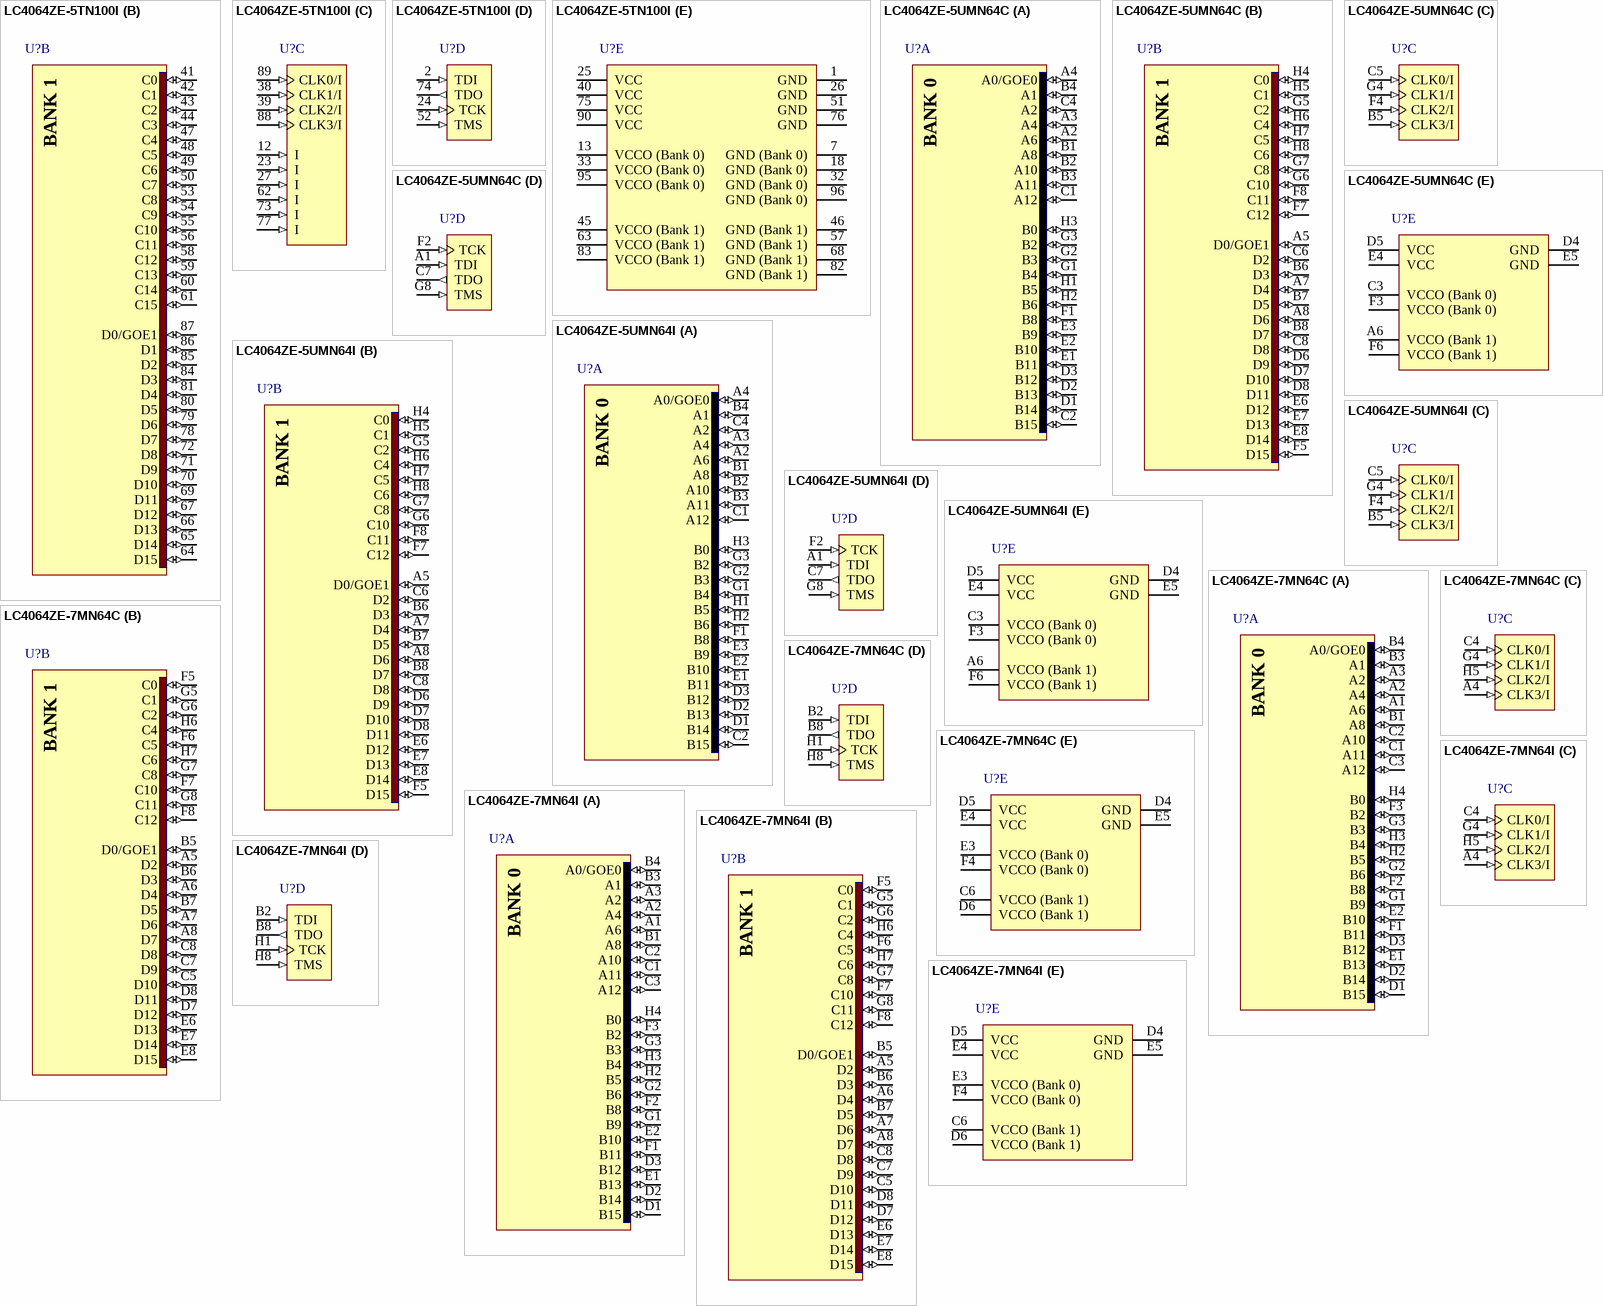
[diagram p4: symbols LC4064ZE-5TN100I to LC4064ZE-7MN64I]

## LC4064ZE-5TN100I
designator U?
ispMACH 4000ZE Ultra Low Power PLD, 1.8V, 64 User I/Os, 100-Pin TQFP, 5.8ns, Industrial Grade, Pb-Free; DatasheetVersion: ver01.4, May-2009; PackageVersion: ver02.8, Jul-2011; PackageReference: TQFP100; PackageDescription: 100-Pin Thin Quad Flat Pack (TQFP100); Code_JEDEC: MS-026-BED; ComponentLink1Description: Manufacturer URL; ComponentLink1URL: http://www.latticesemi.com/; ComponentLink2Description: Datasheet; ComponentLink2URL: http://www.latticesemi.com/documents/DS1022.pdf; ComponentLink3Description: Package Specification; ComponentLink3URL: http://www.latticesemi.com/lit/docs/package/pkg.pdf
footprint TQFP100_N (Thin QFP, 100-Leads, Body 14x14mm, Pitch 0.5mm, IPC Medium Density)
footprint TQFP100_L (Thin QFP, 100-Leads, Body 14x14mm, Pitch 0.5mm, IPC High Density)
footprint TQFP100_M (Thin QFP, 100-Leads, Body 14x14mm, Pitch 0.5mm, IPC Low Density)
part A pins: 3 A8 (io), 4 A9 (io), 5 A10 (io), 6 A11 (io), 8 A12 (io), 9 A13 (io), 10 A14 (io), 11 A15 (io), 14 B15 (io), 15 B14 (io), 16 B13 (io), 17 B12 (io), 19 B11 (io), 20 B10 (io), 21 B9 (io), 22 B8 (io), 28 B7 (io), 29 B6 (io), 30 B5 (io), 31 B4 (io), 34 B3 (io), 35 B2 (io), 36 B1 (io), 37 B0 (io), 91 A0/GOE0 (io), 92 A1 (io), 93 A2 (io), 94 A3 (io), 97 A4 (io), 98 A5 (io), 99 A6 (io), 100 A7 (io)
part B pins: 41 C0 (io), 42 C1 (io), 43 C2 (io), 44 C3 (io), 47 C4 (io), 48 C5 (io), 49 C6 (io), 50 C7 (io), 53 C8 (io), 54 C9 (io), 55 C10 (io), 56 C11 (io), 58 C12 (io), 59 C13 (io), 60 C14 (io), 61 C15 (io), 64 D15 (io), 65 D14 (io), 66 D13 (io), 67 D12 (io), 69 D11 (io), 70 D10 (io), 71 D9 (io), 72 D8 (io), 78 D7 (io), 79 D6 (io), 80 D5 (io), 81 D4 (io), 84 D3 (io), 85 D2 (io), 86 D1 (io), 87 D0/GOE1 (io)
part C pins: 12 I (in), 23 I (in), 27 I (in), 38 CLK1/I (in), 39 CLK2/I (in), 62 I (in), 73 I (in), 77 I (in), 88 CLK3/I (in), 89 CLK0/I (in)
part D pins: 2 TDI (in), 24 TCK (in), 52 TMS (in), 74 TDO (out)
part E pins: 1 GND (power), 7 GND (Bank 0) (power), 13 VCCO (Bank 0) (power), 18 GND (Bank 0) (power), 25 VCC (power), 26 GND (power), 32 GND (Bank 0) (power), 33 VCCO (Bank 0) (power), 40 VCC (power), 45 VCCO (Bank 1) (power), 46 GND (Bank 1) (power), 51 GND (power), 57 GND (Bank 1) (power), 63 VCCO (Bank 1) (power), 68 GND (Bank 1) (power), 75 VCC (power), 76 GND (power), 82 GND (Bank 1) (power), 83 VCCO (Bank 1) (power), 90 VCC (power), 95 VCCO (Bank 0) (power), 96 GND (Bank 0) (power)
part A text: BANK 0
part B text: BANK 1

## LC4064ZE-5UMN64C
designator U?
ispMACH 4000ZE Ultra Low Power PLD, 1.8V, 48 User I/Os, 64-Pin ucBGA, 5.8ns, Commercial Grade, Pb-Free; DatasheetVersion: ver01.4, May-2009; PackageVersion: ver02.8, Jul-2011; PackageReference: ucBGA64; PackageDescription: 64-Ball ucBGA Package, 4 x 4 mm Body, 0.4 mm Pitch; ComponentLink1Description: Manufacturer URL; ComponentLink1URL: http://www.latticesemi.com/; ComponentLink2Description: Datasheet; ComponentLink2URL: http://www.latticesemi.com/documents/DS1022.pdf; ComponentLink3Description: Package Specification; ComponentLink3URL: http://www.latticesemi.com/lit/docs/package/pkg.pdf
footprint ucBGA64 (BGA, 64-Leads, Body 4x4mm, Pitch 0.4mm, Nominal Pad Dia. 0.2mm, Lattice Recommended)
part A pins: A2 A6 (io), A3 A4 (io), A4 A0/GOE0 (io), B1 A8 (io), B2 A10 (io), B3 A11 (io), B4 A1 (io), C1 A12 (io), C2 B15 (io), C4 A2 (io), D1 B14 (io), D2 B13 (io), D3 B12 (io), E1 B11 (io), E2 B10 (io), E3 B9 (io), F1 B8 (io), G1 B4 (io), G2 B3 (io), G3 B2 (io), H1 B5 (io), H2 B6 (io), H3 B0 (io)
part B pins: A5 D0/GOE1 (io), A7 D4 (io), A8 D6 (io), B6 D3 (io), B7 D5 (io), B8 D7 (io), C6 D2 (io), C8 D8 (io), D6 D9 (io), D7 D10 (io), D8 D11 (io), E6 D12 (io), E7 D13 (io), E8 D14 (io), F5 D15 (io), F7 C12 (io), F8 C11 (io), G5 C2 (io), G6 C10 (io), G7 C8 (io), H4 C0 (io), H5 C1 (io), H6 C4 (io), H7 C5 (io), H8 C6 (io)
part C pins: B5 CLK3/I (in), C5 CLK0/I (in), F4 CLK2/I (in), G4 CLK1/I (in)
part D pins: A1 TDI (in), C7 TDO (out), F2 TCK (in), G8 TMS (in)
part E pins: A6 VCCO (Bank 1) (power), C3 VCCO (Bank 0) (power), D4 GND (power), D5 VCC (power), E4 VCC (power), E5 GND (power), F3 VCCO (Bank 0) (power), F6 VCCO (Bank 1) (power)
part A text: BANK 0
part B text: BANK 1

## LC4064ZE-5UMN64I
designator U?
ispMACH 4000ZE Ultra Low Power PLD, 1.8V, 48 User I/Os, 64-Pin ucBGA, 5.8ns, Industrial Grade, Pb-Free; DatasheetVersion: ver01.4, May-2009; PackageVersion: ver02.8, Jul-2011; PackageReference: ucBGA64; PackageDescription: 64-Ball ucBGA Package, 4 x 4 mm Body, 0.4 mm Pitch; ComponentLink1Description: Manufacturer URL; ComponentLink1URL: http://www.latticesemi.com/; ComponentLink2Description: Datasheet; ComponentLink2URL: http://www.latticesemi.com/documents/DS1022.pdf; ComponentLink3Description: Package Specification; ComponentLink3URL: http://www.latticesemi.com/lit/docs/package/pkg.pdf
footprint ucBGA64 (BGA, 64-Leads, Body 4x4mm, Pitch 0.4mm, Nominal Pad Dia. 0.2mm, Lattice Recommended)
part A pins: A2 A6 (io), A3 A4 (io), A4 A0/GOE0 (io), B1 A8 (io), B2 A10 (io), B3 A11 (io), B4 A1 (io), C1 A12 (io), C2 B15 (io), C4 A2 (io), D1 B14 (io), D2 B13 (io), D3 B12 (io), E1 B11 (io), E2 B10 (io), E3 B9 (io), F1 B8 (io), G1 B4 (io), G2 B3 (io), G3 B2 (io), H1 B5 (io), H2 B6 (io), H3 B0 (io)
part B pins: A5 D0/GOE1 (io), A7 D4 (io), A8 D6 (io), B6 D3 (io), B7 D5 (io), B8 D7 (io), C6 D2 (io), C8 D8 (io), D6 D9 (io), D7 D10 (io), D8 D11 (io), E6 D12 (io), E7 D13 (io), E8 D14 (io), F5 D15 (io), F7 C12 (io), F8 C11 (io), G5 C2 (io), G6 C10 (io), G7 C8 (io), H4 C0 (io), H5 C1 (io), H6 C4 (io), H7 C5 (io), H8 C6 (io)
part C pins: B5 CLK3/I (in), C5 CLK0/I (in), F4 CLK2/I (in), G4 CLK1/I (in)
part D pins: A1 TDI (in), C7 TDO (out), F2 TCK (in), G8 TMS (in)
part E pins: A6 VCCO (Bank 1) (power), C3 VCCO (Bank 0) (power), D4 GND (power), D5 VCC (power), E4 VCC (power), E5 GND (power), F3 VCCO (Bank 0) (power), F6 VCCO (Bank 1) (power)
part A text: BANK 0
part B text: BANK 1

## LC4064ZE-7MN64C
designator U?
ispMACH 4000ZE Ultra Low Power PLD, 1.8V, 48 User I/Os, 64-Pin csBGA, 7.5ns, Commercial Grade, Pb-Free; DatasheetVersion: ver01.4, May-2009; PackageVersion: ver02.6, Nov-2010; PackageReference: csBGA64; PackageDescription: 64-Ball Chip Scale Ball Grid Array (csBGA64); ComponentLink1Description: Manufacturer URL; ComponentLink1URL: http://www.latticesemi.com/; ComponentLink2Description: Datasheet; ComponentLink2URL: http://www.latticesemi.com/documents/DS1022.pdf; ComponentLink3Description: Package Specification; ComponentLink3URL: http://www.latticesemi.com/lit/docs/package/pkg.pdf
footprint csBGA64 (BGA, 64-Leads, Body 5x5mm, Pitch 0.5mm)
part A pins: A1 A6 (io), A2 A4 (io), A3 A2 (io), B1 A8 (io), B3 A1 (io), B4 A0/GOE0 (io), C1 A11 (io), C2 A10 (io), C3 A12 (io), D1 B15 (io), D2 B14 (io), D3 B12 (io), E1 B13 (io), E2 B10 (io), F1 B11 (io), F2 B8 (io), F3 B2 (io), G1 B9 (io), G2 B6 (io), G3 B3 (io), H2 B5 (io), H3 B4 (io), H4 B0 (io)
part B pins: A5 D2 (io), A6 D4 (io), A7 D6 (io), A8 D7 (io), B5 D0/GOE1 (io), B6 D3 (io), B7 D5 (io), C5 D10 (io), C7 D9 (io), C8 D8 (io), D7 D12 (io), D8 D11 (io), E6 D13 (io), E7 D14 (io), E8 D15 (io), F5 C0 (io), F6 C5 (io), F7 C10 (io), F8 C12 (io), G5 C1 (io), G6 C2 (io), G7 C8 (io), G8 C11 (io), H6 C4 (io), H7 C6 (io)
part C pins: A4 CLK3/I (in), C4 CLK0/I (in), G4 CLK1/I (in), H5 CLK2/I (in)
part D pins: B2 TDI (in), B8 TDO (out), H1 TCK (in), H8 TMS (in)
part E pins: C6 VCCO (Bank 1) (power), D4 GND (power), D5 VCC (power), D6 VCCO (Bank 1) (power), E3 VCCO (Bank 0) (power), E4 VCC (power), E5 GND (power), F4 VCCO (Bank 0) (power)
part A text: BANK 0
part B text: BANK 1

## LC4064ZE-7MN64I
designator U?
ispMACH 4000ZE Ultra Low Power PLD, 1.8V, 48 User I/Os, 64-Pin csBGA, 7.5ns, Industrial Grade, Pb-Free; DatasheetVersion: ver01.4, May-2009; PackageVersion: ver02.6, Nov-2010; PackageReference: csBGA64; PackageDescription: 64-Ball Chip Scale Ball Grid Array (csBGA64); ComponentLink1Description: Manufacturer URL; ComponentLink1URL: http://www.latticesemi.com/; ComponentLink2Description: Datasheet; ComponentLink2URL: http://www.latticesemi.com/documents/DS1022.pdf; ComponentLink3Description: Package Specification; ComponentLink3URL: http://www.latticesemi.com/lit/docs/package/pkg.pdf
footprint csBGA64 (BGA, 64-Leads, Body 5x5mm, Pitch 0.5mm)
part A pins: A1 A6 (io), A2 A4 (io), A3 A2 (io), B1 A8 (io), B3 A1 (io), B4 A0/GOE0 (io), C1 A11 (io), C2 A10 (io), C3 A12 (io), D1 B15 (io), D2 B14 (io), D3 B12 (io), E1 B13 (io), E2 B10 (io), F1 B11 (io), F2 B8 (io), F3 B2 (io), G1 B9 (io), G2 B6 (io), G3 B3 (io), H2 B5 (io), H3 B4 (io), H4 B0 (io)
part B pins: A5 D2 (io), A6 D4 (io), A7 D6 (io), A8 D7 (io), B5 D0/GOE1 (io), B6 D3 (io), B7 D5 (io), C5 D10 (io), C7 D9 (io), C8 D8 (io), D7 D12 (io), D8 D11 (io), E6 D13 (io), E7 D14 (io), E8 D15 (io), F5 C0 (io), F6 C5 (io), F7 C10 (io), F8 C12 (io), G5 C1 (io), G6 C2 (io), G7 C8 (io), G8 C11 (io), H6 C4 (io), H7 C6 (io)
part C pins: A4 CLK3/I (in), C4 CLK0/I (in), G4 CLK1/I (in), H5 CLK2/I (in)
part D pins: B2 TDI (in), B8 TDO (out), H1 TCK (in), H8 TMS (in)
part E pins: C6 VCCO (Bank 1) (power), D4 GND (power), D5 VCC (power), D6 VCCO (Bank 1) (power), E3 VCCO (Bank 0) (power), E4 VCC (power), E5 GND (power), F4 VCCO (Bank 0) (power)
part A text: BANK 0
part B text: BANK 1

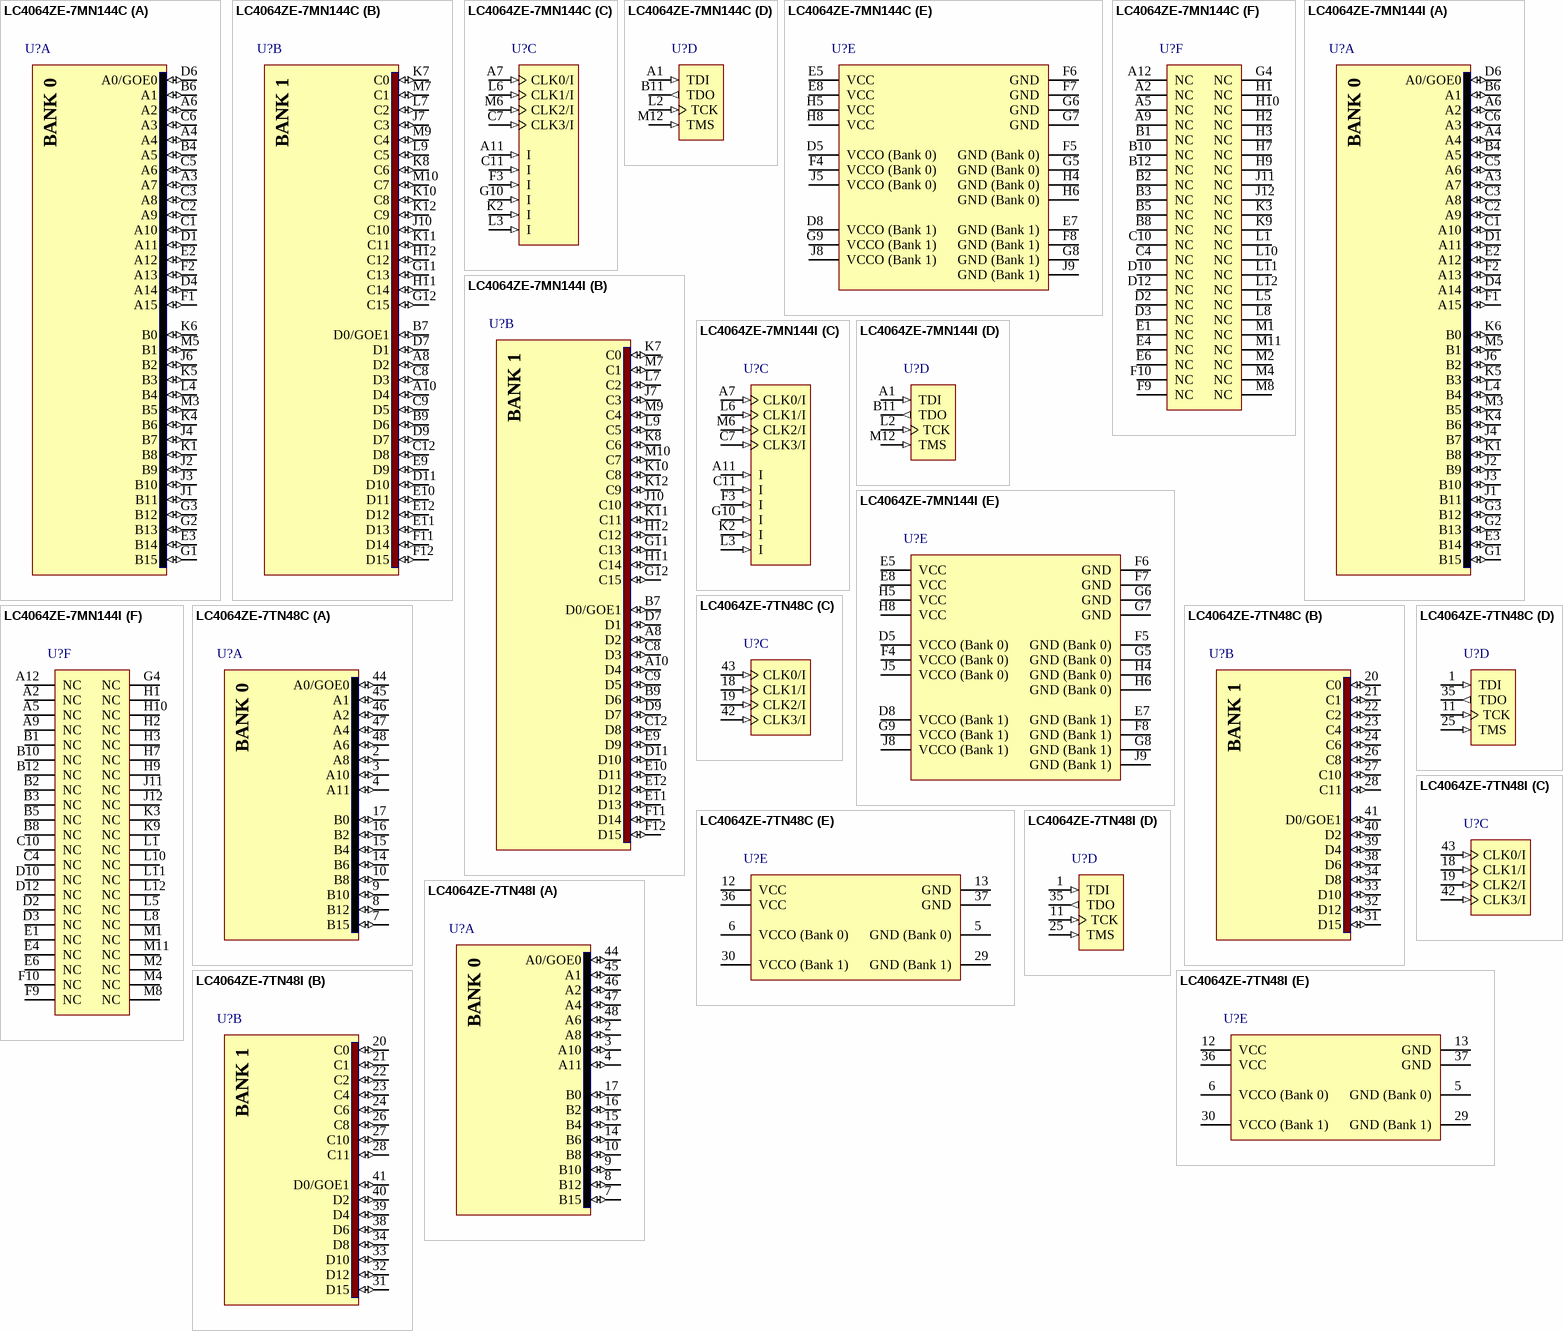
[diagram p5: symbols LC4064ZE-7MN144C to LC4064ZE-7TN48I]